# Altium integrated library Actel SX.IntLib: 224 symbols (part 6 of 17)
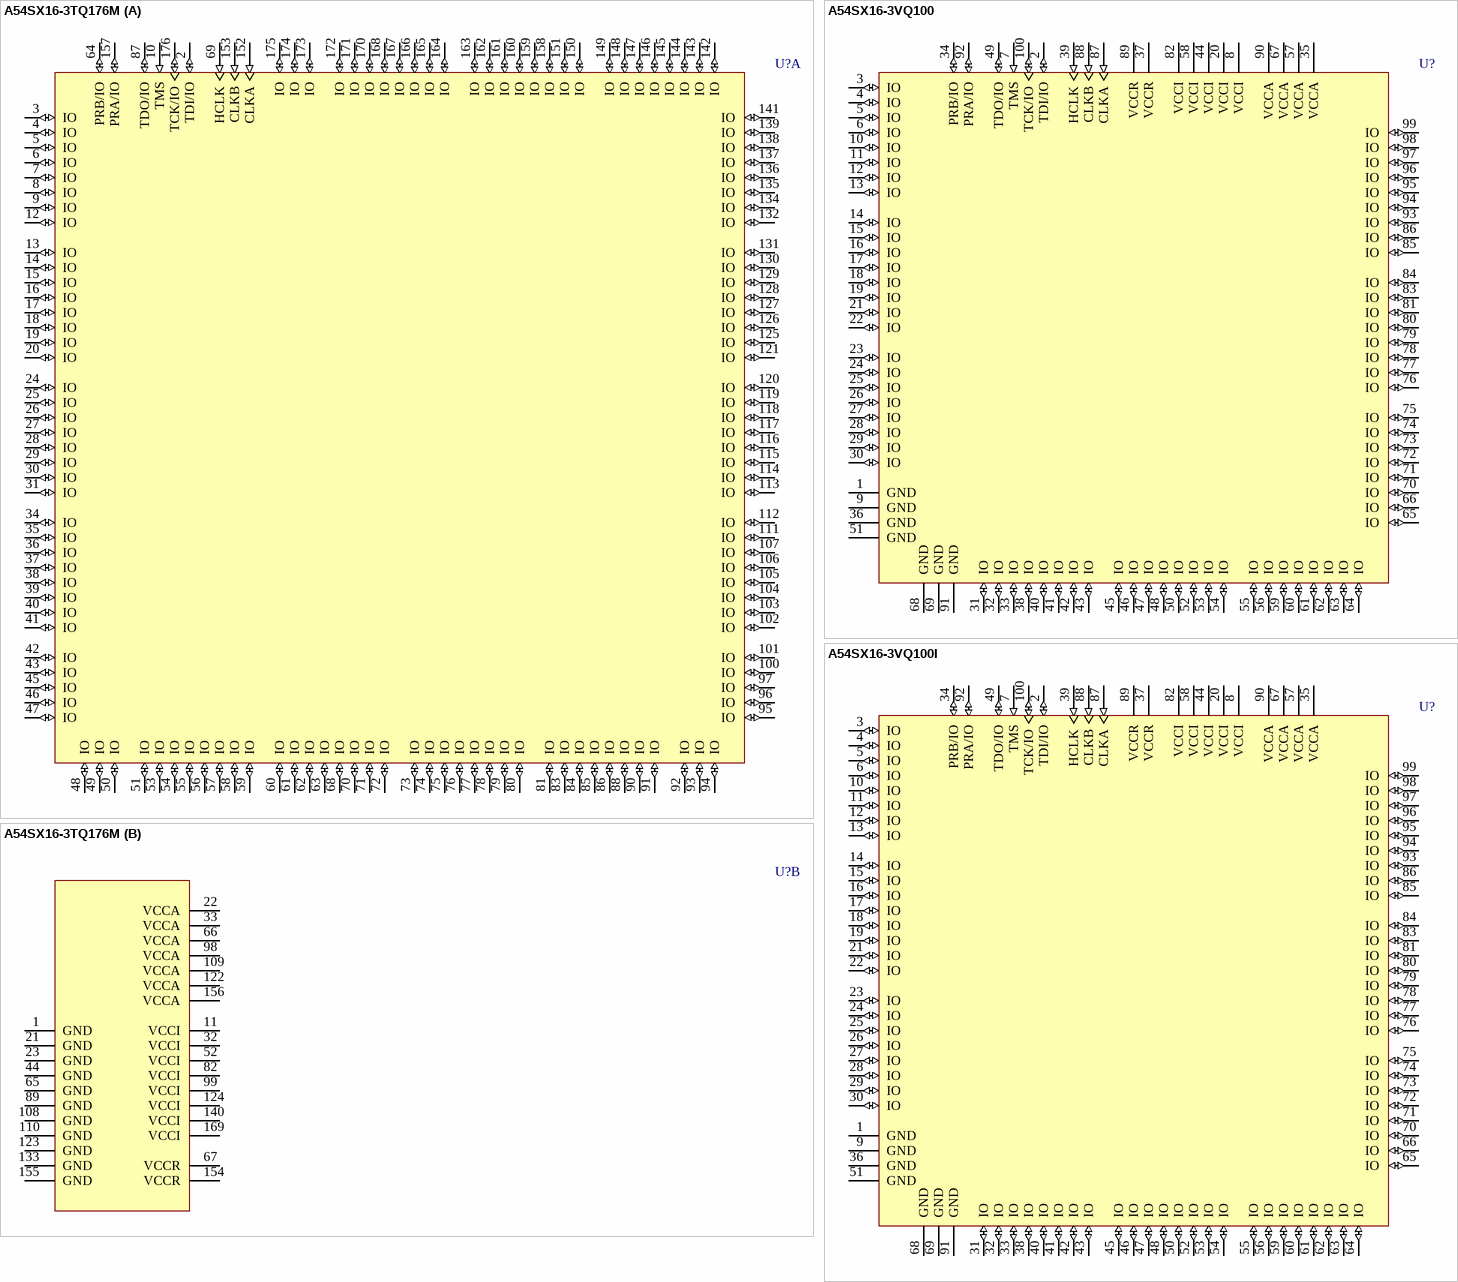
[diagram p172: symbols A54SX16-3TQ176M to A54SX16-3VQ100I]

## A54SX16-3TQ176M
designator U?
54SX16 FPGA, 147 User IOs, 176-Pin TQFP, Speed Grade 3, Commercial Grade; Note: Unused I/O Pins are automatically tristated by the Designer Series software.; Published: 21-May-2003; LatestRevisionDate: 13-Apr-2006; LatestRevisionNote: IPC-7351 Footprint Added.; DatasheetVersion: ver3.1, Jun-2003; PackageVersion: v9.2, Apr-2006; PackageReference: TQ176; Publisher: Altium Limited; PackageDescription: 176-Pin Plastic Quad Flat Pack (TQ176); Code_JEDEC: MS-026-BCA; ComponentLink1Description: Manufacturer Link; ComponentLink1URL: http://www.actel.com/products/sxa/index.html; ComponentLink2Description: Datasheet; ComponentLink2URL: http://www.actel.com/documents/A54SXDS.pdf
footprint TQ176_N (Thin QFP, 176-Leads, Body 24x24mm, Pitch 0.5mm, IPC Medium Density)
footprint TQ176_L (Thin QFP, 176-Leads, Body 24x24mm, Pitch 0.5mm, IPC High Density)
footprint TQ176_M (Thin QFP, 176-Leads, Body 24x24mm, Pitch 0.5mm, IPC Low Density)
3D model A54SX16-TQ176 (176-Pin Plastic Quad Flat Pack (TQ176))
part A pins: 2 TDI/IO (io), 3 IO (io), 4 IO (io), 5 IO (io), 6 IO (io), 7 IO (io), 8 IO (io), 9 IO (io), 10 TMS (in), 12 IO (io), 13 IO (io), 14 IO (io), 15 IO (io), 16 IO (io), 17 IO (io), 18 IO (io), 19 IO (io), 20 IO (io), 24 IO (io), 25 IO (io), 26 IO (io), 27 IO (io), 28 IO (io), 29 IO (io), 30 IO (io), 31 IO (io), 34 IO (io), 35 IO (io), 36 IO (io), 37 IO (io), 38 IO (io), 39 IO (io), 40 IO (io), 41 IO (io), 42 IO (io), 43 IO (io), 45 IO (io), 46 IO (io), 47 IO (io), 48 IO (io), 49 IO (io), 50 IO (io), 51 IO (io), 53 IO (io), 54 IO (io), 55 IO (io), 56 IO (io), 57 IO (io), 58 IO (io), 59 IO (io), 60 IO (io), 61 IO (io), 62 IO (io), 63 IO (io), 64 PRB/IO (io), 68 IO (io), 69 HCLK (in), 70 IO (io), 71 IO (io), 72 IO (io), 73 IO (io), 74 IO (io), 75 IO (io), 76 IO (io), 77 IO (io), 78 IO (io), 79 IO (io), 80 IO (io), 81 IO (io), 83 IO (io), 84 IO (io), 85 IO (io), 86 IO (io), 87 TDO/IO (io), 88 IO (io), 90 IO (io), 91 IO (io), 92 IO (io), 93 IO (io), 94 IO (io), 95 IO (io), 96 IO (io), 97 IO (io), 100 IO (io), 101 IO (io), 102 IO (io), 103 IO (io), 104 IO (io), 105 IO (io), 106 IO (io), 107 IO (io), 111 IO (io), 112 IO (io), 113 IO (io), 114 IO (io), 115 IO (io), 116 IO (io), 117 IO (io), 118 IO (io), 119 IO (io), 120 IO (io), 121 IO (io), 125 IO (io), 126 IO (io), 127 IO (io), 128 IO (io), 129 IO (io), 130 IO (io), 131 IO (io), 132 IO (io), 134 IO (io), 135 IO (io), 136 IO (io), 137 IO (io), 138 IO (io), 139 IO (io), 141 IO (io), 142 IO (io), 143 IO (io), 144 IO (io), 145 IO (io), 146 IO (io), 147 IO (io), 148 IO (io), 149 IO (io), 150 IO (io), 151 IO (io), 152 CLKA (in), 153 CLKB (in), 157 PRA/IO (io), 158 IO (io), 159 IO (io), 160 IO (io), 161 IO (io), 162 IO (io), 163 IO (io), 164 IO (io), 165 IO (io), 166 IO (io), 167 IO (io), 168 IO (io), 170 IO (io), 171 IO (io), 172 IO (io), 173 IO (io), 174 IO (io), 175 IO (io), 176 TCK/IO (io)
part B pins: 1 GND (power), 11 VCCI (power), 21 GND (power), 22 VCCA (power), 23 GND (power), 32 VCCI (power), 33 VCCA (power), 44 GND (power), 52 VCCI (power), 65 GND (power), 66 VCCA (power), 67 VCCR (power), 82 VCCI (power), 89 GND (power), 98 VCCA (power), 99 VCCI (power), 108 GND (power), 109 VCCA (power), 110 GND (power), 122 VCCA (power), 123 GND (power), 124 VCCI (power), 133 GND (power), 140 VCCI (power), 154 VCCR (power), 155 GND (power), 156 VCCA (power), 169 VCCI (power)

## A54SX16-3VQ100
designator U?
54SX16 FPGA, 81 User IOs, 100-Pin VQFP, Speed Grade 3, Commercial Grade; Note: Unused I/O Pins are automatically tristated by the Designer Series software.; Published: 21-May-2003; LatestRevisionDate: 13-Apr-2006; LatestRevisionNote: IPC-7351 Footprint Added.; DatasheetVersion: ver3.1, Jun-2003; PackageVersion: v9.2, Apr-2006; PackageReference: VQ100; Publisher: Altium Limited; PackageDescription: 100-Pin Plastic Quad Flat Pack (VQ100); Code_JEDEC: MS-036-AED; ComponentLink1Description: Manufacturer Link; ComponentLink1URL: http://www.actel.com/products/sxa/index.html; ComponentLink2Description: Datasheet; ComponentLink2URL: http://www.actel.com/documents/A54SXDS.pdf
footprint VQ100_N (Thin QFP, 100-Leads, Body 14x14mm, Pitch 0.5mm, IPC Medium Density)
footprint VQ100_L (Thin QFP, 100-Leads, Body 14x14mm, Pitch 0.5mm, IPC High Density)
footprint VQ100_M (Thin QFP, 100-Leads, Body 14x14mm, Pitch 0.5mm, IPC Low Density)
3D model A54SX16-VQ100 (100-Pin Plastic Quad Flat Pack (VQ100))
pins: 1 GND (power), 2 TDI/IO (io), 3 IO (io), 4 IO (io), 5 IO (io), 6 IO (io), 7 TMS (in), 8 VCCI (power), 9 GND (power), 10 IO (io), 11 IO (io), 12 IO (io), 13 IO (io), 14 IO (io), 15 IO (io), 16 IO (io), 17 IO (io), 18 IO (io), 19 IO (io), 20 VCCI (power), 21 IO (io), 22 IO (io), 23 IO (io), 24 IO (io), 25 IO (io), 26 IO (io), 27 IO (io), 28 IO (io), 29 IO (io), 30 IO (io), 31 IO (io), 32 IO (io), 33 IO (io), 34 PRB/IO (io), 35 VCCA (power), 36 GND (power), 37 VCCR (power), 38 IO (io), 39 HCLK (in), 40 IO (io), 41 IO (io), 42 IO (io), 43 IO (io), 44 VCCI (power), 45 IO (io), 46 IO (io), 47 IO (io), 48 IO (io), 49 TDO/IO (io), 50 IO (io), 51 GND (power), 52 IO (io), 53 IO (io), 54 IO (io), 55 IO (io), 56 IO (io), 57 VCCA (power), 58 VCCI (power), 59 IO (io), 60 IO (io), 61 IO (io), 62 IO (io), 63 IO (io), 64 IO (io), 65 IO (io), 66 IO (io), 67 VCCA (power), 68 GND (power), 69 GND (power), 70 IO (io), 71 IO (io), 72 IO (io), 73 IO (io), 74 IO (io), 75 IO (io), 76 IO (io), 77 IO (io), 78 IO (io), 79 IO (io), 80 IO (io), 81 IO (io), 82 VCCI (power), 83 IO (io), 84 IO (io), 85 IO (io), 86 IO (io), 87 CLKA (in), 88 CLKB (in), 89 VCCR (power), 90 VCCA (power), 91 GND (power), 92 PRA/IO (io), 93 IO (io), 94 IO (io), 95 IO (io), 96 IO (io), 97 IO (io), 98 IO (io), 99 IO (io), 100 TCK/IO (io)

## A54SX16-3VQ100I
designator U?
54SX16 FPGA, 81 User IOs, 100-Pin VQFP, Speed Grade 3, Industrial Grade; Note: Unused I/O Pins are automatically tristated by the Designer Series software.; Published: 21-May-2003; LatestRevisionDate: 13-Apr-2006; LatestRevisionNote: IPC-7351 Footprint Added.; DatasheetVersion: ver3.1, Jun-2003; PackageVersion: v9.2, Apr-2006; PackageReference: VQ100; Publisher: Altium Limited; PackageDescription: 100-Pin Plastic Quad Flat Pack (VQ100); Code_JEDEC: MS-036-AED; ComponentLink1Description: Manufacturer Link; ComponentLink1URL: http://www.actel.com/products/sxa/index.html; ComponentLink2Description: Datasheet; ComponentLink2URL: http://www.actel.com/documents/A54SXDS.pdf
footprint VQ100_N (Thin QFP, 100-Leads, Body 14x14mm, Pitch 0.5mm, IPC Medium Density)
footprint VQ100_L (Thin QFP, 100-Leads, Body 14x14mm, Pitch 0.5mm, IPC High Density)
footprint VQ100_M (Thin QFP, 100-Leads, Body 14x14mm, Pitch 0.5mm, IPC Low Density)
3D model A54SX16-VQ100 (100-Pin Plastic Quad Flat Pack (VQ100))
pins: 1 GND (power), 2 TDI/IO (io), 3 IO (io), 4 IO (io), 5 IO (io), 6 IO (io), 7 TMS (in), 8 VCCI (power), 9 GND (power), 10 IO (io), 11 IO (io), 12 IO (io), 13 IO (io), 14 IO (io), 15 IO (io), 16 IO (io), 17 IO (io), 18 IO (io), 19 IO (io), 20 VCCI (power), 21 IO (io), 22 IO (io), 23 IO (io), 24 IO (io), 25 IO (io), 26 IO (io), 27 IO (io), 28 IO (io), 29 IO (io), 30 IO (io), 31 IO (io), 32 IO (io), 33 IO (io), 34 PRB/IO (io), 35 VCCA (power), 36 GND (power), 37 VCCR (power), 38 IO (io), 39 HCLK (in), 40 IO (io), 41 IO (io), 42 IO (io), 43 IO (io), 44 VCCI (power), 45 IO (io), 46 IO (io), 47 IO (io), 48 IO (io), 49 TDO/IO (io), 50 IO (io), 51 GND (power), 52 IO (io), 53 IO (io), 54 IO (io), 55 IO (io), 56 IO (io), 57 VCCA (power), 58 VCCI (power), 59 IO (io), 60 IO (io), 61 IO (io), 62 IO (io), 63 IO (io), 64 IO (io), 65 IO (io), 66 IO (io), 67 VCCA (power), 68 GND (power), 69 GND (power), 70 IO (io), 71 IO (io), 72 IO (io), 73 IO (io), 74 IO (io), 75 IO (io), 76 IO (io), 77 IO (io), 78 IO (io), 79 IO (io), 80 IO (io), 81 IO (io), 82 VCCI (power), 83 IO (io), 84 IO (io), 85 IO (io), 86 IO (io), 87 CLKA (in), 88 CLKB (in), 89 VCCR (power), 90 VCCA (power), 91 GND (power), 92 PRA/IO (io), 93 IO (io), 94 IO (io), 95 IO (io), 96 IO (io), 97 IO (io), 98 IO (io), 99 IO (io), 100 TCK/IO (io)

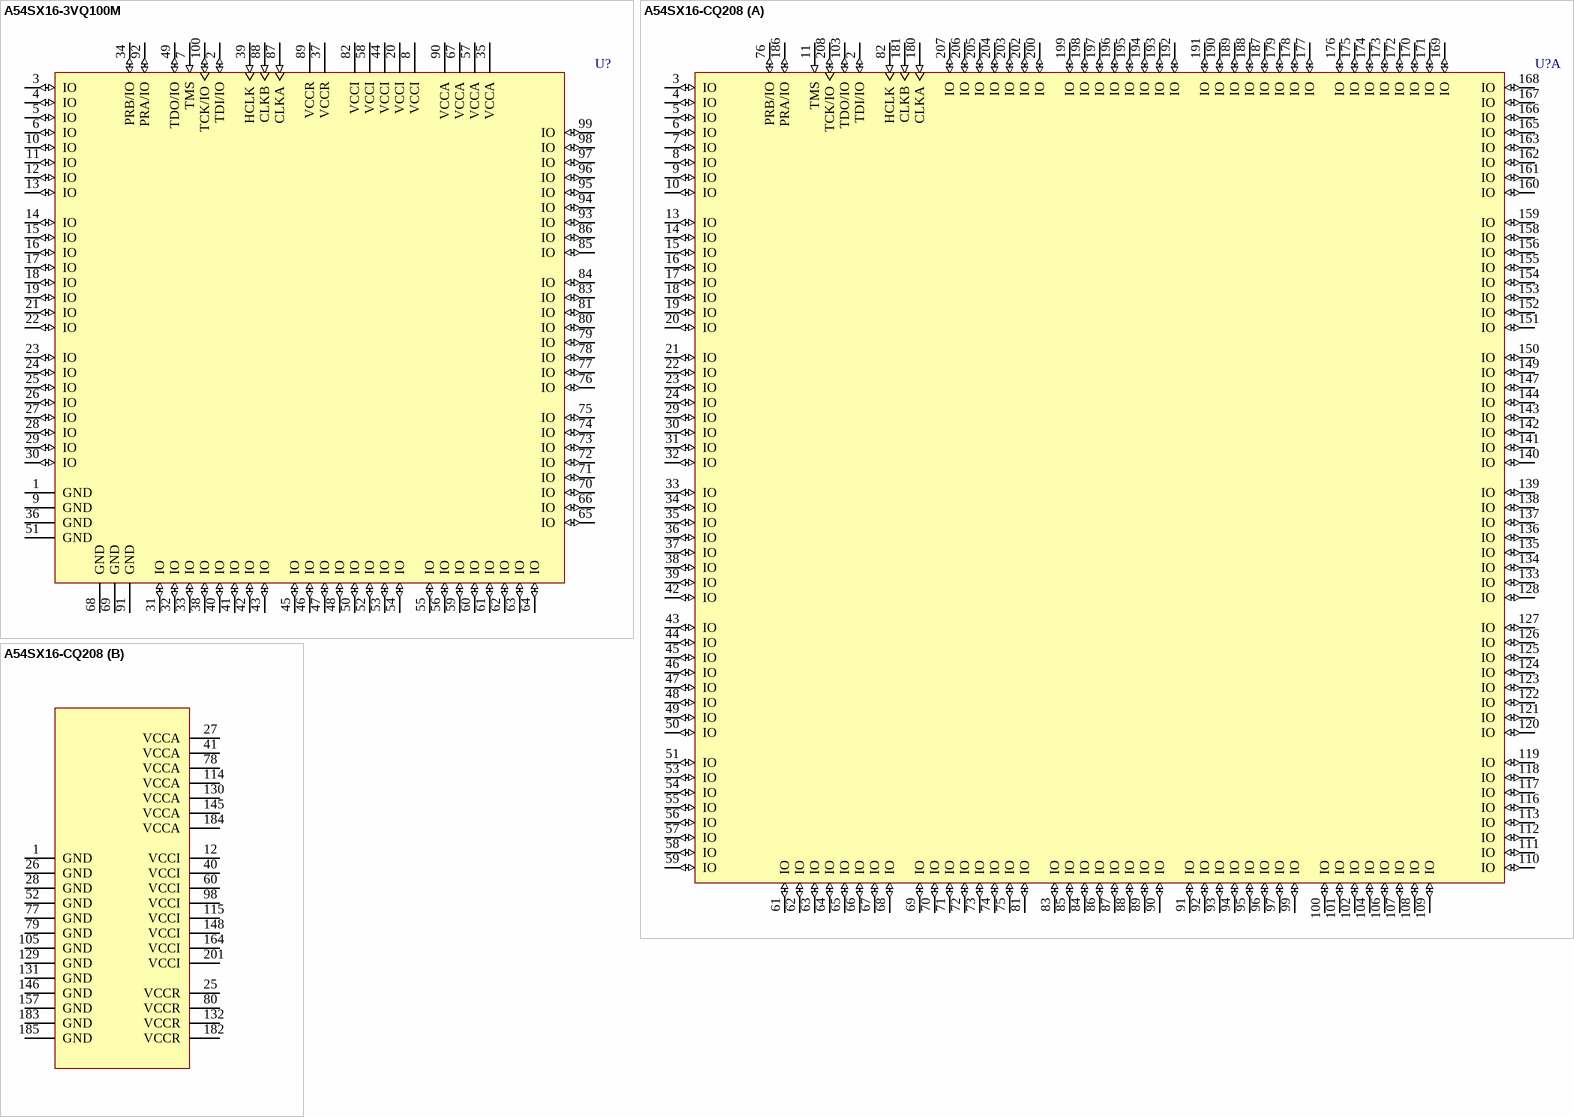
[diagram p44: symbols A54SX16-3VQ100M to A54SX16-CQ208]

## A54SX16-3VQ100M
designator U?
54SX16 FPGA, 81 User IOs, 100-Pin VQFP, Speed Grade 3, Commercial Grade; Note: Unused I/O Pins are automatically tristated by the Designer Series software.; Published: 21-May-2003; LatestRevisionDate: 13-Apr-2006; LatestRevisionNote: IPC-7351 Footprint Added.; DatasheetVersion: ver3.1, Jun-2003; PackageVersion: v9.2, Apr-2006; PackageReference: VQ100; Publisher: Altium Limited; PackageDescription: 100-Pin Plastic Quad Flat Pack (VQ100); Code_JEDEC: MS-036-AED; ComponentLink1Description: Manufacturer Link; ComponentLink1URL: http://www.actel.com/products/sxa/index.html; ComponentLink2Description: Datasheet; ComponentLink2URL: http://www.actel.com/documents/A54SXDS.pdf
footprint VQ100_N (Thin QFP, 100-Leads, Body 14x14mm, Pitch 0.5mm, IPC Medium Density)
footprint VQ100_L (Thin QFP, 100-Leads, Body 14x14mm, Pitch 0.5mm, IPC High Density)
footprint VQ100_M (Thin QFP, 100-Leads, Body 14x14mm, Pitch 0.5mm, IPC Low Density)
3D model A54SX16-VQ100 (100-Pin Plastic Quad Flat Pack (VQ100))
pins: 1 GND (power), 2 TDI/IO (io), 3 IO (io), 4 IO (io), 5 IO (io), 6 IO (io), 7 TMS (in), 8 VCCI (power), 9 GND (power), 10 IO (io), 11 IO (io), 12 IO (io), 13 IO (io), 14 IO (io), 15 IO (io), 16 IO (io), 17 IO (io), 18 IO (io), 19 IO (io), 20 VCCI (power), 21 IO (io), 22 IO (io), 23 IO (io), 24 IO (io), 25 IO (io), 26 IO (io), 27 IO (io), 28 IO (io), 29 IO (io), 30 IO (io), 31 IO (io), 32 IO (io), 33 IO (io), 34 PRB/IO (io), 35 VCCA (power), 36 GND (power), 37 VCCR (power), 38 IO (io), 39 HCLK (in), 40 IO (io), 41 IO (io), 42 IO (io), 43 IO (io), 44 VCCI (power), 45 IO (io), 46 IO (io), 47 IO (io), 48 IO (io), 49 TDO/IO (io), 50 IO (io), 51 GND (power), 52 IO (io), 53 IO (io), 54 IO (io), 55 IO (io), 56 IO (io), 57 VCCA (power), 58 VCCI (power), 59 IO (io), 60 IO (io), 61 IO (io), 62 IO (io), 63 IO (io), 64 IO (io), 65 IO (io), 66 IO (io), 67 VCCA (power), 68 GND (power), 69 GND (power), 70 IO (io), 71 IO (io), 72 IO (io), 73 IO (io), 74 IO (io), 75 IO (io), 76 IO (io), 77 IO (io), 78 IO (io), 79 IO (io), 80 IO (io), 81 IO (io), 82 VCCI (power), 83 IO (io), 84 IO (io), 85 IO (io), 86 IO (io), 87 CLKA (in), 88 CLKB (in), 89 VCCR (power), 90 VCCA (power), 91 GND (power), 92 PRA/IO (io), 93 IO (io), 94 IO (io), 95 IO (io), 96 IO (io), 97 IO (io), 98 IO (io), 99 IO (io), 100 TCK/IO (io)

## A54SX16-CQ208
designator U?
A54SX16 RadTolerant FPGA, 175 User IOs, 208-Pin CQFP, Standard Speed Grade, Commecial Grade; Published: 17-Sep-2003; LatestRevisionDate: 13-Apr-2006; LatestRevisionNote: IPC-7351 Footprint Added.; DatasheetVersion: ver2.1, Mar-2005; PackageVersion: v9.2, Apr-2006; PackageReference: CQ208; Publisher: Altium Limited; PackageDescription: 208-Pin Ceramic Quad Flat Pack (CQFP); ComponentLink1Description: Manufacturer Link; ComponentLink1URL: http://www.actel.com/products/aero/index.html; ComponentLink2Description: Datasheet; ComponentLink2URL: http://www.actel.com/documents/RTSXDS.pdf
footprint CQ208_N (CQFP, 208-Leads, Body 29x29mm; Pitch 0.5mm, Gullwing Leadform, IPC Medium Density)
footprint CQ208_L (CQFP, 208-Leads, Body 29x29mm; Pitch 0.5mm, Gullwing Leadform, IPC High Density)
footprint CQ208_M (CQFP, 208-Leads, Body 29x29mm; Pitch 0.5mm, Gullwing Leadform, IPC Low Density)
3D model A54SX16-CQ208 (208-Pin Ceramic Quad Flat Pack (CQFP))
part A pins: 2 TDI/IO (io), 3 IO (io), 4 IO (io), 5 IO (io), 6 IO (io), 7 IO (io), 8 IO (io), 9 IO (io), 10 IO (io), 11 TMS (in), 13 IO (io), 14 IO (io), 15 IO (io), 16 IO (io), 17 IO (io), 18 IO (io), 19 IO (io), 20 IO (io), 21 IO (io), 22 IO (io), 23 IO (io), 24 IO (io), 29 IO (io), 30 IO (io), 31 IO (io), 32 IO (io), 33 IO (io), 34 IO (io), 35 IO (io), 36 IO (io), 37 IO (io), 38 IO (io), 39 IO (io), 42 IO (io), 43 IO (io), 44 IO (io), 45 IO (io), 46 IO (io), 47 IO (io), 48 IO (io), 49 IO (io), 50 IO (io), 51 IO (io), 53 IO (io), 54 IO (io), 55 IO (io), 56 IO (io), 57 IO (io), 58 IO (io), 59 IO (io), 61 IO (io), 62 IO (io), 63 IO (io), 64 IO (io), 65 IO (io), 66 IO (io), 67 IO (io), 68 IO (io), 69 IO (io), 70 IO (io), 71 IO (io), 72 IO (io), 73 IO (io), 74 IO (io), 75 IO (io), 76 PRB/IO (io), 81 IO (io), 82 HCLK (in), 83 IO (io), 84 IO (io), 85 IO (io), 86 IO (io), 87 IO (io), 88 IO (io), 89 IO (io), 90 IO (io), 91 IO (io), 92 IO (io), 93 IO (io), 94 IO (io), 95 IO (io), 96 IO (io), 97 IO (io), 99 IO (io), 100 IO (io), 101 IO (io), 102 IO (io), 103 TDO/IO (io), 104 IO (io), 106 IO (io), 107 IO (io), 108 IO (io), 109 IO (io), 110 IO (io), 111 IO (io), 112 IO (io), 113 IO (io), 116 IO (io), 117 IO (io), 118 IO (io), 119 IO (io), 120 IO (io), 121 IO (io), 122 IO (io), 123 IO (io), 124 IO (io), 125 IO (io), 126 IO (io), 127 IO (io), 128 IO (io), 133 IO (io), 134 IO (io), 135 IO (io), 136 IO (io), 137 IO (io), 138 IO (io), 139 IO (io), 140 IO (io), 141 IO (io), 142 IO (io), 143 IO (io), 144 IO (io), 147 IO (io), 149 IO (io), 150 IO (io), 151 IO (io), 152 IO (io), 153 IO (io), 154 IO (io), 155 IO (io), 156 IO (io), 158 IO (io), 159 IO (io), 160 IO (io), 161 IO (io), 162 IO (io), 163 IO (io), 165 IO (io), 166 IO (io), 167 IO (io), 168 IO (io), 169 IO (io), 170 IO (io), 171 IO (io), 172 IO (io), 173 IO (io), 174 IO (io), 175 IO (io), 176 IO (io), 177 IO (io), 178 IO (io), 179 IO (io), 180 CLKA (in), 181 CLKB (in), 186 PRA/IO (io), 187 IO (io), 188 IO (io), 189 IO (io), 190 IO (io), 191 IO (io), 192 IO (io), 193 IO (io), 194 IO (io), 195 IO (io), 196 IO (io), 197 IO (io), 198 IO (io), 199 IO (io), 200 IO (io), 202 IO (io), 203 IO (io), 204 IO (io), 205 IO (io), 206 IO (io), 207 IO (io), 208 TCK/IO (io)
part B pins: 1 GND (power), 12 VCCI (power), 25 VCCR (power), 26 GND (power), 27 VCCA (power), 28 GND (power), 40 VCCI (power), 41 VCCA (power), 52 GND (power), 60 VCCI (power), 77 GND (power), 78 VCCA (power), 79 GND (power), 80 VCCR (power), 98 VCCI (power), 105 GND (power), 114 VCCA (power), 115 VCCI (power), 129 GND (power), 130 VCCA (power), 131 GND (power), 132 VCCR (power), 145 VCCA (power), 146 GND (power), 148 VCCI (power), 157 GND (power), 164 VCCI (power), 182 VCCR (power), 183 GND (power), 184 VCCA (power), 185 GND (power), 201 VCCI (power)

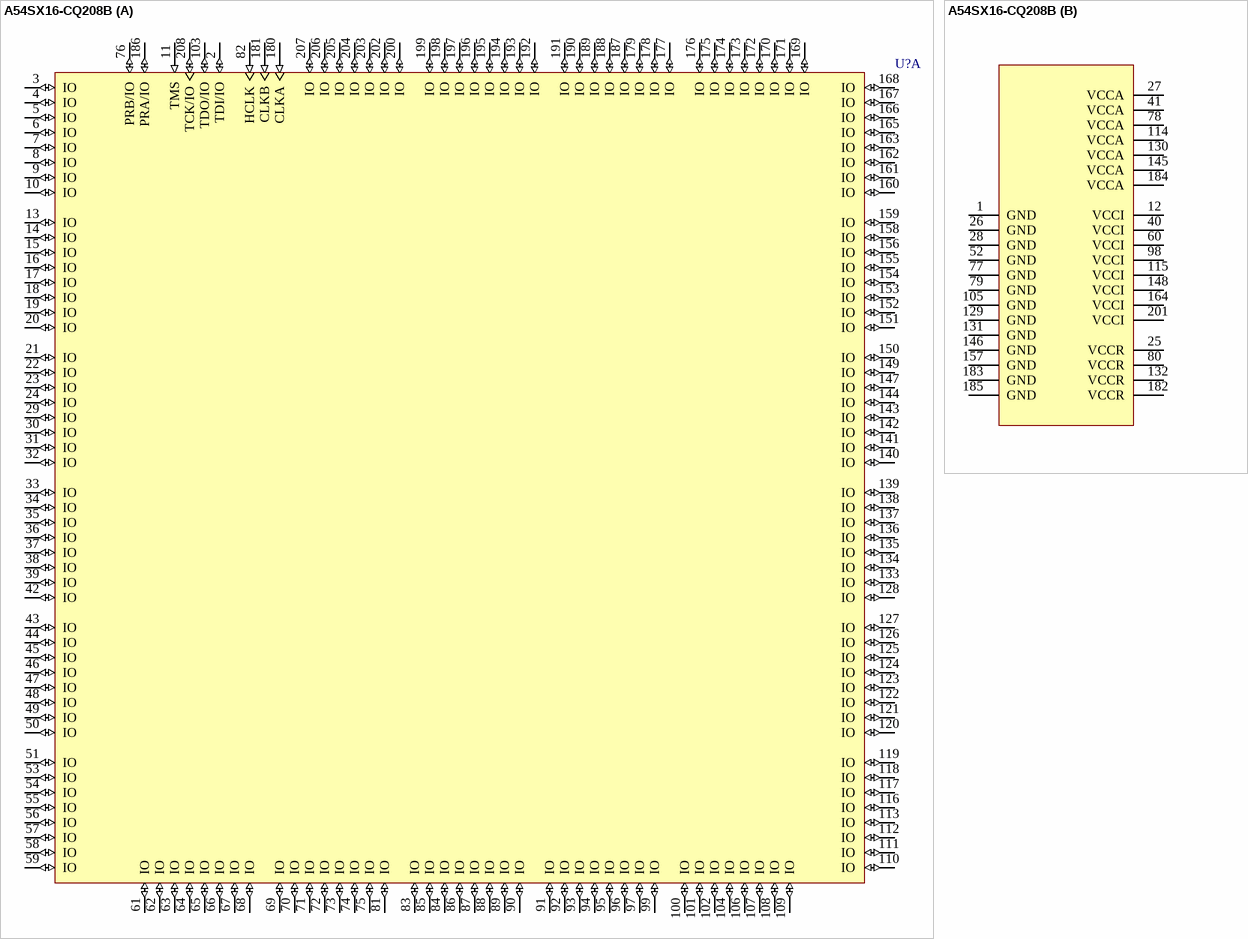
[diagram p45: symbol A54SX16-CQ208B]

## A54SX16-CQ208B
designator U?
A54SX16 RadTolerant FPGA, 175 User IOs, 208-Pin CQFP, Standard Speed Grade, MIL-STD-883; Published: 17-Sep-2003; LatestRevisionDate: 13-Apr-2006; LatestRevisionNote: IPC-7351 Footprint Added.; DatasheetVersion: ver2.1, Mar-2005; PackageVersion: v9.2, Apr-2006; PackageReference: CQ208; Publisher: Altium Limited; PackageDescription: 208-Pin Ceramic Quad Flat Pack (CQFP); ComponentLink1Description: Manufacturer Link; ComponentLink1URL: http://www.actel.com/products/aero/index.html; ComponentLink2Description: Datasheet; ComponentLink2URL: http://www.actel.com/documents/RTSXDS.pdf
footprint CQ208_N (CQFP, 208-Leads, Body 29x29mm; Pitch 0.5mm, Gullwing Leadform, IPC Medium Density)
footprint CQ208_L (CQFP, 208-Leads, Body 29x29mm; Pitch 0.5mm, Gullwing Leadform, IPC High Density)
footprint CQ208_M (CQFP, 208-Leads, Body 29x29mm; Pitch 0.5mm, Gullwing Leadform, IPC Low Density)
3D model A54SX16-CQ208 (208-Pin Ceramic Quad Flat Pack (CQFP))
part A pins: 2 TDI/IO (io), 3 IO (io), 4 IO (io), 5 IO (io), 6 IO (io), 7 IO (io), 8 IO (io), 9 IO (io), 10 IO (io), 11 TMS (in), 13 IO (io), 14 IO (io), 15 IO (io), 16 IO (io), 17 IO (io), 18 IO (io), 19 IO (io), 20 IO (io), 21 IO (io), 22 IO (io), 23 IO (io), 24 IO (io), 29 IO (io), 30 IO (io), 31 IO (io), 32 IO (io), 33 IO (io), 34 IO (io), 35 IO (io), 36 IO (io), 37 IO (io), 38 IO (io), 39 IO (io), 42 IO (io), 43 IO (io), 44 IO (io), 45 IO (io), 46 IO (io), 47 IO (io), 48 IO (io), 49 IO (io), 50 IO (io), 51 IO (io), 53 IO (io), 54 IO (io), 55 IO (io), 56 IO (io), 57 IO (io), 58 IO (io), 59 IO (io), 61 IO (io), 62 IO (io), 63 IO (io), 64 IO (io), 65 IO (io), 66 IO (io), 67 IO (io), 68 IO (io), 69 IO (io), 70 IO (io), 71 IO (io), 72 IO (io), 73 IO (io), 74 IO (io), 75 IO (io), 76 PRB/IO (io), 81 IO (io), 82 HCLK (in), 83 IO (io), 84 IO (io), 85 IO (io), 86 IO (io), 87 IO (io), 88 IO (io), 89 IO (io), 90 IO (io), 91 IO (io), 92 IO (io), 93 IO (io), 94 IO (io), 95 IO (io), 96 IO (io), 97 IO (io), 99 IO (io), 100 IO (io), 101 IO (io), 102 IO (io), 103 TDO/IO (io), 104 IO (io), 106 IO (io), 107 IO (io), 108 IO (io), 109 IO (io), 110 IO (io), 111 IO (io), 112 IO (io), 113 IO (io), 116 IO (io), 117 IO (io), 118 IO (io), 119 IO (io), 120 IO (io), 121 IO (io), 122 IO (io), 123 IO (io), 124 IO (io), 125 IO (io), 126 IO (io), 127 IO (io), 128 IO (io), 133 IO (io), 134 IO (io), 135 IO (io), 136 IO (io), 137 IO (io), 138 IO (io), 139 IO (io), 140 IO (io), 141 IO (io), 142 IO (io), 143 IO (io), 144 IO (io), 147 IO (io), 149 IO (io), 150 IO (io), 151 IO (io), 152 IO (io), 153 IO (io), 154 IO (io), 155 IO (io), 156 IO (io), 158 IO (io), 159 IO (io), 160 IO (io), 161 IO (io), 162 IO (io), 163 IO (io), 165 IO (io), 166 IO (io), 167 IO (io), 168 IO (io), 169 IO (io), 170 IO (io), 171 IO (io), 172 IO (io), 173 IO (io), 174 IO (io), 175 IO (io), 176 IO (io), 177 IO (io), 178 IO (io), 179 IO (io), 180 CLKA (in), 181 CLKB (in), 186 PRA/IO (io), 187 IO (io), 188 IO (io), 189 IO (io), 190 IO (io), 191 IO (io), 192 IO (io), 193 IO (io), 194 IO (io), 195 IO (io), 196 IO (io), 197 IO (io), 198 IO (io), 199 IO (io), 200 IO (io), 202 IO (io), 203 IO (io), 204 IO (io), 205 IO (io), 206 IO (io), 207 IO (io), 208 TCK/IO (io)
part B pins: 1 GND (power), 12 VCCI (power), 25 VCCR (power), 26 GND (power), 27 VCCA (power), 28 GND (power), 40 VCCI (power), 41 VCCA (power), 52 GND (power), 60 VCCI (power), 77 GND (power), 78 VCCA (power), 79 GND (power), 80 VCCR (power), 98 VCCI (power), 105 GND (power), 114 VCCA (power), 115 VCCI (power), 129 GND (power), 130 VCCA (power), 131 GND (power), 132 VCCR (power), 145 VCCA (power), 146 GND (power), 148 VCCI (power), 157 GND (power), 164 VCCI (power), 182 VCCR (power), 183 GND (power), 184 VCCA (power), 185 GND (power), 201 VCCI (power)

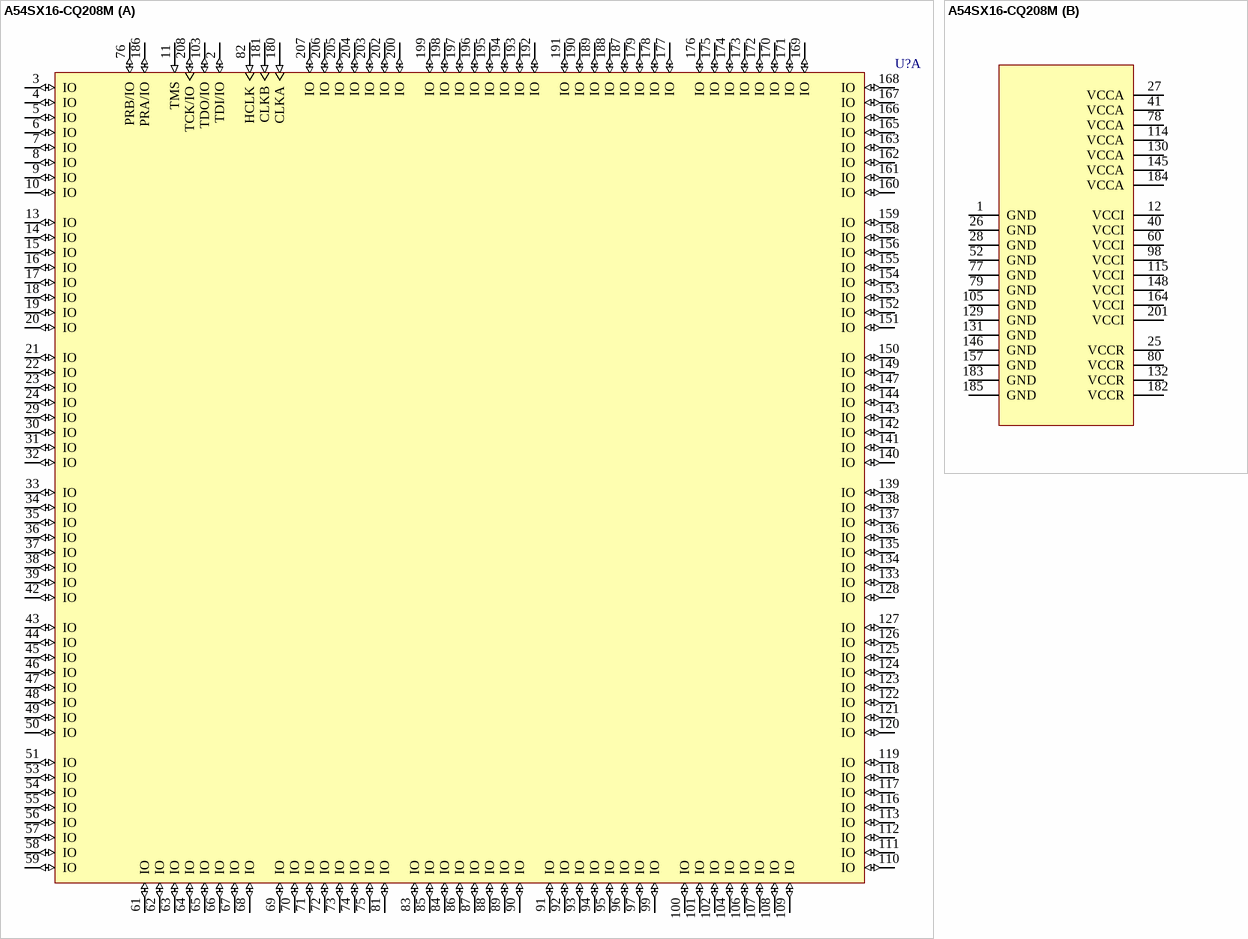
[diagram p46: symbol A54SX16-CQ208M]

## A54SX16-CQ208M
designator U?
A54SX16 RadTolerant FPGA, 175 User IOs, 208-Pin CQFP, Standard Speed Grade, Military Grade; Published: 17-Sep-2003; LatestRevisionDate: 13-Apr-2006; LatestRevisionNote: IPC-7351 Footprint Added.; DatasheetVersion: ver2.1, Mar-2005; PackageVersion: v9.2, Apr-2006; PackageReference: CQ208; Publisher: Altium Limited; PackageDescription: 208-Pin Ceramic Quad Flat Pack (CQFP); ComponentLink1Description: Manufacturer Link; ComponentLink1URL: http://www.actel.com/products/aero/index.html; ComponentLink2Description: Datasheet; ComponentLink2URL: http://www.actel.com/documents/RTSXDS.pdf
footprint CQ208_N (CQFP, 208-Leads, Body 29x29mm; Pitch 0.5mm, Gullwing Leadform, IPC Medium Density)
footprint CQ208_L (CQFP, 208-Leads, Body 29x29mm; Pitch 0.5mm, Gullwing Leadform, IPC High Density)
footprint CQ208_M (CQFP, 208-Leads, Body 29x29mm; Pitch 0.5mm, Gullwing Leadform, IPC Low Density)
3D model A54SX16-CQ208 (208-Pin Ceramic Quad Flat Pack (CQFP))
part A pins: 2 TDI/IO (io), 3 IO (io), 4 IO (io), 5 IO (io), 6 IO (io), 7 IO (io), 8 IO (io), 9 IO (io), 10 IO (io), 11 TMS (in), 13 IO (io), 14 IO (io), 15 IO (io), 16 IO (io), 17 IO (io), 18 IO (io), 19 IO (io), 20 IO (io), 21 IO (io), 22 IO (io), 23 IO (io), 24 IO (io), 29 IO (io), 30 IO (io), 31 IO (io), 32 IO (io), 33 IO (io), 34 IO (io), 35 IO (io), 36 IO (io), 37 IO (io), 38 IO (io), 39 IO (io), 42 IO (io), 43 IO (io), 44 IO (io), 45 IO (io), 46 IO (io), 47 IO (io), 48 IO (io), 49 IO (io), 50 IO (io), 51 IO (io), 53 IO (io), 54 IO (io), 55 IO (io), 56 IO (io), 57 IO (io), 58 IO (io), 59 IO (io), 61 IO (io), 62 IO (io), 63 IO (io), 64 IO (io), 65 IO (io), 66 IO (io), 67 IO (io), 68 IO (io), 69 IO (io), 70 IO (io), 71 IO (io), 72 IO (io), 73 IO (io), 74 IO (io), 75 IO (io), 76 PRB/IO (io), 81 IO (io), 82 HCLK (in), 83 IO (io), 84 IO (io), 85 IO (io), 86 IO (io), 87 IO (io), 88 IO (io), 89 IO (io), 90 IO (io), 91 IO (io), 92 IO (io), 93 IO (io), 94 IO (io), 95 IO (io), 96 IO (io), 97 IO (io), 99 IO (io), 100 IO (io), 101 IO (io), 102 IO (io), 103 TDO/IO (io), 104 IO (io), 106 IO (io), 107 IO (io), 108 IO (io), 109 IO (io), 110 IO (io), 111 IO (io), 112 IO (io), 113 IO (io), 116 IO (io), 117 IO (io), 118 IO (io), 119 IO (io), 120 IO (io), 121 IO (io), 122 IO (io), 123 IO (io), 124 IO (io), 125 IO (io), 126 IO (io), 127 IO (io), 128 IO (io), 133 IO (io), 134 IO (io), 135 IO (io), 136 IO (io), 137 IO (io), 138 IO (io), 139 IO (io), 140 IO (io), 141 IO (io), 142 IO (io), 143 IO (io), 144 IO (io), 147 IO (io), 149 IO (io), 150 IO (io), 151 IO (io), 152 IO (io), 153 IO (io), 154 IO (io), 155 IO (io), 156 IO (io), 158 IO (io), 159 IO (io), 160 IO (io), 161 IO (io), 162 IO (io), 163 IO (io), 165 IO (io), 166 IO (io), 167 IO (io), 168 IO (io), 169 IO (io), 170 IO (io), 171 IO (io), 172 IO (io), 173 IO (io), 174 IO (io), 175 IO (io), 176 IO (io), 177 IO (io), 178 IO (io), 179 IO (io), 180 CLKA (in), 181 CLKB (in), 186 PRA/IO (io), 187 IO (io), 188 IO (io), 189 IO (io), 190 IO (io), 191 IO (io), 192 IO (io), 193 IO (io), 194 IO (io), 195 IO (io), 196 IO (io), 197 IO (io), 198 IO (io), 199 IO (io), 200 IO (io), 202 IO (io), 203 IO (io), 204 IO (io), 205 IO (io), 206 IO (io), 207 IO (io), 208 TCK/IO (io)
part B pins: 1 GND (power), 12 VCCI (power), 25 VCCR (power), 26 GND (power), 27 VCCA (power), 28 GND (power), 40 VCCI (power), 41 VCCA (power), 52 GND (power), 60 VCCI (power), 77 GND (power), 78 VCCA (power), 79 GND (power), 80 VCCR (power), 98 VCCI (power), 105 GND (power), 114 VCCA (power), 115 VCCI (power), 129 GND (power), 130 VCCA (power), 131 GND (power), 132 VCCR (power), 145 VCCA (power), 146 GND (power), 148 VCCI (power), 157 GND (power), 164 VCCI (power), 182 VCCR (power), 183 GND (power), 184 VCCA (power), 185 GND (power), 201 VCCI (power)

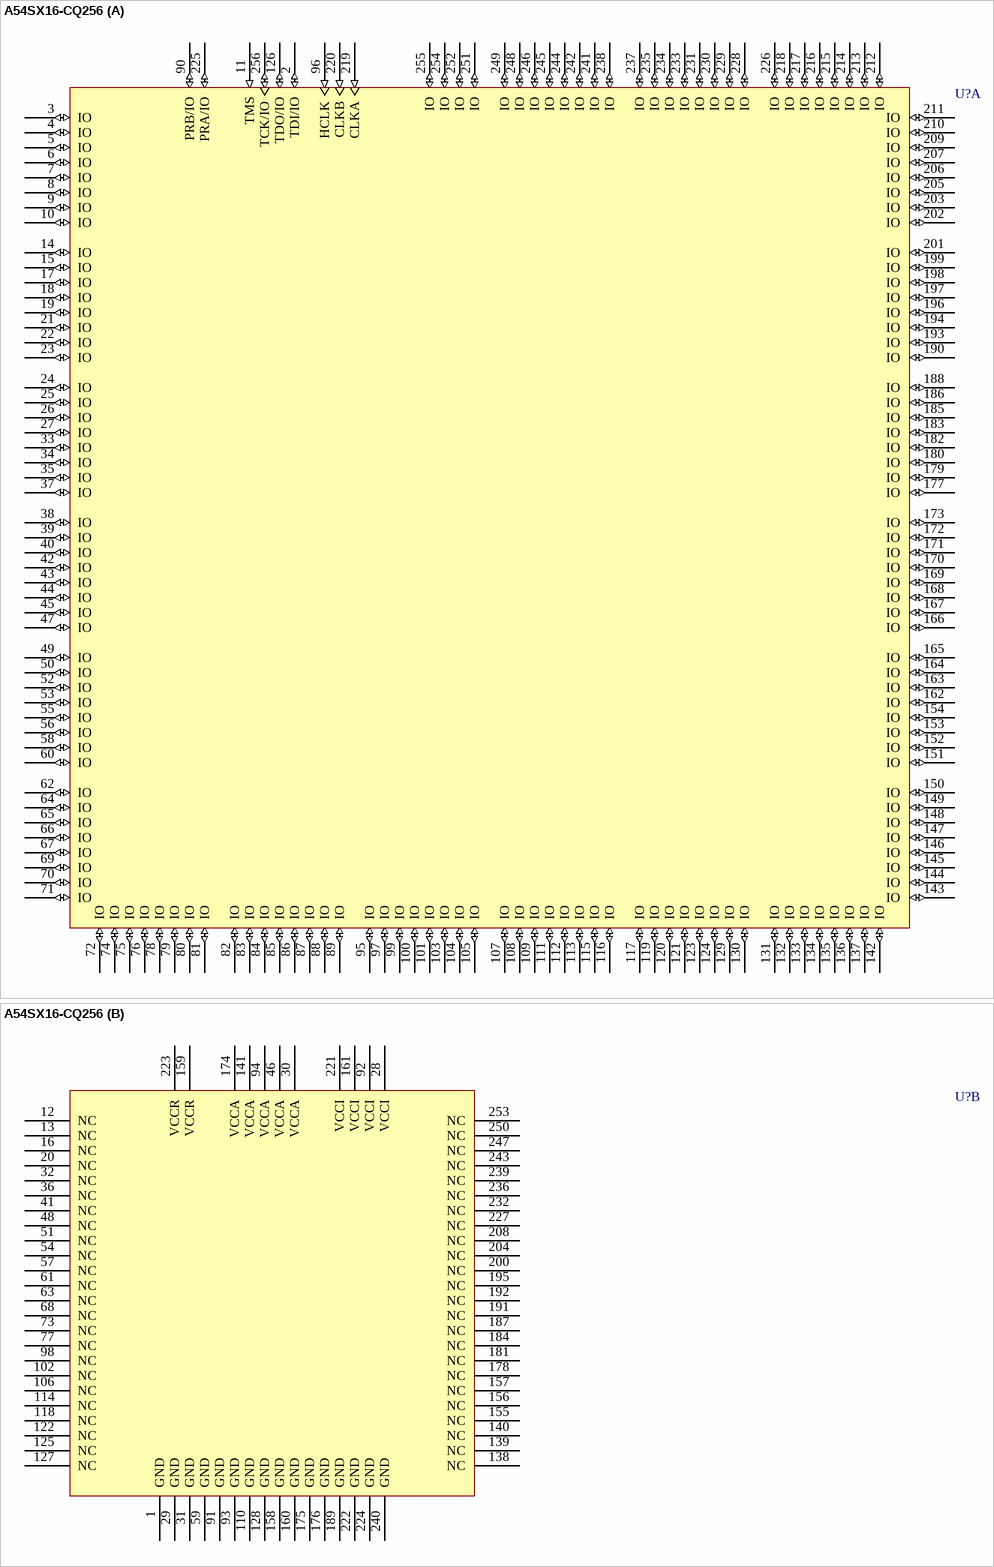
[diagram p47: symbol A54SX16-CQ256]

## A54SX16-CQ256
designator U?
A54SX16 RadTolerant FPGA, 180 User IOs, 256-Pin CQFP, Standard Speed Grade, Commecial Grade; Published: 17-Sep-2003; LatestRevisionDate: 13-Apr-2006; LatestRevisionNote: IPC-7351 Footprint Added.; DatasheetVersion: ver2.1, Mar-2005; PackageVersion: v9.2, Apr-2006; PackageReference: CQ256; Publisher: Altium Limited; PackageDescription: 256-Pin Ceramic Quad Flat Pack (CQFP); Code_JEDEC: MO-134-AB; ComponentLink1Description: Manufacturer Link; ComponentLink1URL: http://www.actel.com/products/aero/index.html; ComponentLink2Description: Datasheet; ComponentLink2URL: http://www.actel.com/documents/RTSXDS.pdf
footprint CQ256_N (CQFP, 256-Leads, Body 36x36mm; Pitch 0.5mm, Gullwing Leadform, IPC Medium Density)
footprint CQ256_L (CQFP, 256-Leads, Body 36x36mm; Pitch 0.5mm, Gullwing Leadform, IPC High Density)
footprint CQ256_M (CQFP, 256-Leads, Body 36x36mm; Pitch 0.5mm, Gullwing Leadform, IPC Low Density)
3D model A54SX16-CQ256 (256-Pin Ceramic Quad Flat Pack (CQFP))
part A pins: 2 TDI/IO (io), 3 IO (io), 4 IO (io), 5 IO (io), 6 IO (io), 7 IO (io), 8 IO (io), 9 IO (io), 10 IO (io), 11 TMS (in), 14 IO (io), 15 IO (io), 17 IO (io), 18 IO (io), 19 IO (io), 21 IO (io), 22 IO (io), 23 IO (io), 24 IO (io), 25 IO (io), 26 IO (io), 27 IO (io), 33 IO (io), 34 IO (io), 35 IO (io), 37 IO (io), 38 IO (io), 39 IO (io), 40 IO (io), 42 IO (io), 43 IO (io), 44 IO (io), 45 IO (io), 47 IO (io), 49 IO (io), 50 IO (io), 52 IO (io), 53 IO (io), 55 IO (io), 56 IO (io), 58 IO (io), 60 IO (io), 62 IO (io), 64 IO (io), 65 IO (io), 66 IO (io), 67 IO (io), 69 IO (io), 70 IO (io), 71 IO (io), 72 IO (io), 74 IO (io), 75 IO (io), 76 IO (io), 78 IO (io), 79 IO (io), 80 IO (io), 81 IO (io), 82 IO (io), 83 IO (io), 84 IO (io), 85 IO (io), 86 IO (io), 87 IO (io), 88 IO (io), 89 IO (io), 90 PRB/IO (io), 95 IO (io), 96 HCLK (in), 97 IO (io), 99 IO (io), 100 IO (io), 101 IO (io), 103 IO (io), 104 IO (io), 105 IO (io), 107 IO (io), 108 IO (io), 109 IO (io), 111 IO (io), 112 IO (io), 113 IO (io), 115 IO (io), 116 IO (io), 117 IO (io), 119 IO (io), 120 IO (io), 121 IO (io), 123 IO (io), 124 IO (io), 126 TDO/IO (io), 129 IO (io), 130 IO (io), 131 IO (io), 132 IO (io), 133 IO (io), 134 IO (io), 135 IO (io), 136 IO (io), 137 IO (io), 142 IO (io), 143 IO (io), 144 IO (io), 145 IO (io), 146 IO (io), 147 IO (io), 148 IO (io), 149 IO (io), 150 IO (io), 151 IO (io), 152 IO (io), 153 IO (io), 154 IO (io), 162 IO (io), 163 IO (io), 164 IO (io), 165 IO (io), 166 IO (io), 167 IO (io), 168 IO (io), 169 IO (io), 170 IO (io), 171 IO (io), 172 IO (io), 173 IO (io), 177 IO (io), 179 IO (io), 180 IO (io), 182 IO (io), 183 IO (io), 185 IO (io), 186 IO (io), 188 IO (io), 190 IO (io), 193 IO (io), 194 IO (io), 196 IO (io), 197 IO (io), 198 IO (io), 199 IO (io), 201 IO (io), 202 IO (io), 203 IO (io), 205 IO (io), 206 IO (io), 207 IO (io), 209 IO (io), 210 IO (io), 211 IO (io), 212 IO (io), 213 IO (io), 214 IO (io), 215 IO (io), 216 IO (io), 217 IO (io), 218 IO (io), 219 CLKA (in), 220 CLKB (in), 225 PRA/IO (io), 226 IO (io), 228 IO (io), 229 IO (io), 230 IO (io), 231 IO (io), 233 IO (io), 234 IO (io), 235 IO (io), 237 IO (io), 238 IO (io), 241 IO (io), 242 IO (io), 244 IO (io), 245 IO (io), 246 IO (io), 248 IO (io), 249 IO (io), 251 IO (io), 252 IO (io), 254 IO (io), 255 IO (io), 256 TCK/IO (io)
part B pins: 1 GND (power), 12 NC, 13 NC, 16 NC, 20 NC, 28 VCCI (power), 29 GND (power), 30 VCCA (power), 31 GND (power), 32 NC, 36 NC, 41 NC, 46 VCCA (power), 48 NC, 51 NC, 54 NC, 57 NC, 59 GND (power), 61 NC, 63 NC, 68 NC, 73 NC, 77 NC, 91 GND (power), 92 VCCI (power), 93 GND (power), 94 VCCA (power), 98 NC, 102 NC, 106 NC, 110 GND (power), 114 NC, 118 NC, 122 NC, 125 NC, 127 NC, 128 GND (power), 138 NC, 139 NC, 140 NC, 141 VCCA (power), 155 NC, 156 NC, 157 NC, 158 GND (power), 159 VCCR (power), 160 GND (power), 161 VCCI (power), 174 VCCA (power), 175 GND (power), 176 GND (power), 178 NC, 181 NC, 184 NC, 187 NC, 189 GND (power), 191 NC, 192 NC, 195 NC, 200 NC, 204 NC, 208 NC, 221 VCCI (power), 222 GND (power), 223 VCCR (power), 224 GND (power), 227 NC, 232 NC, 236 NC, 239 NC, 240 GND (power), 243 NC, 247 NC, 250 NC, 253 NC

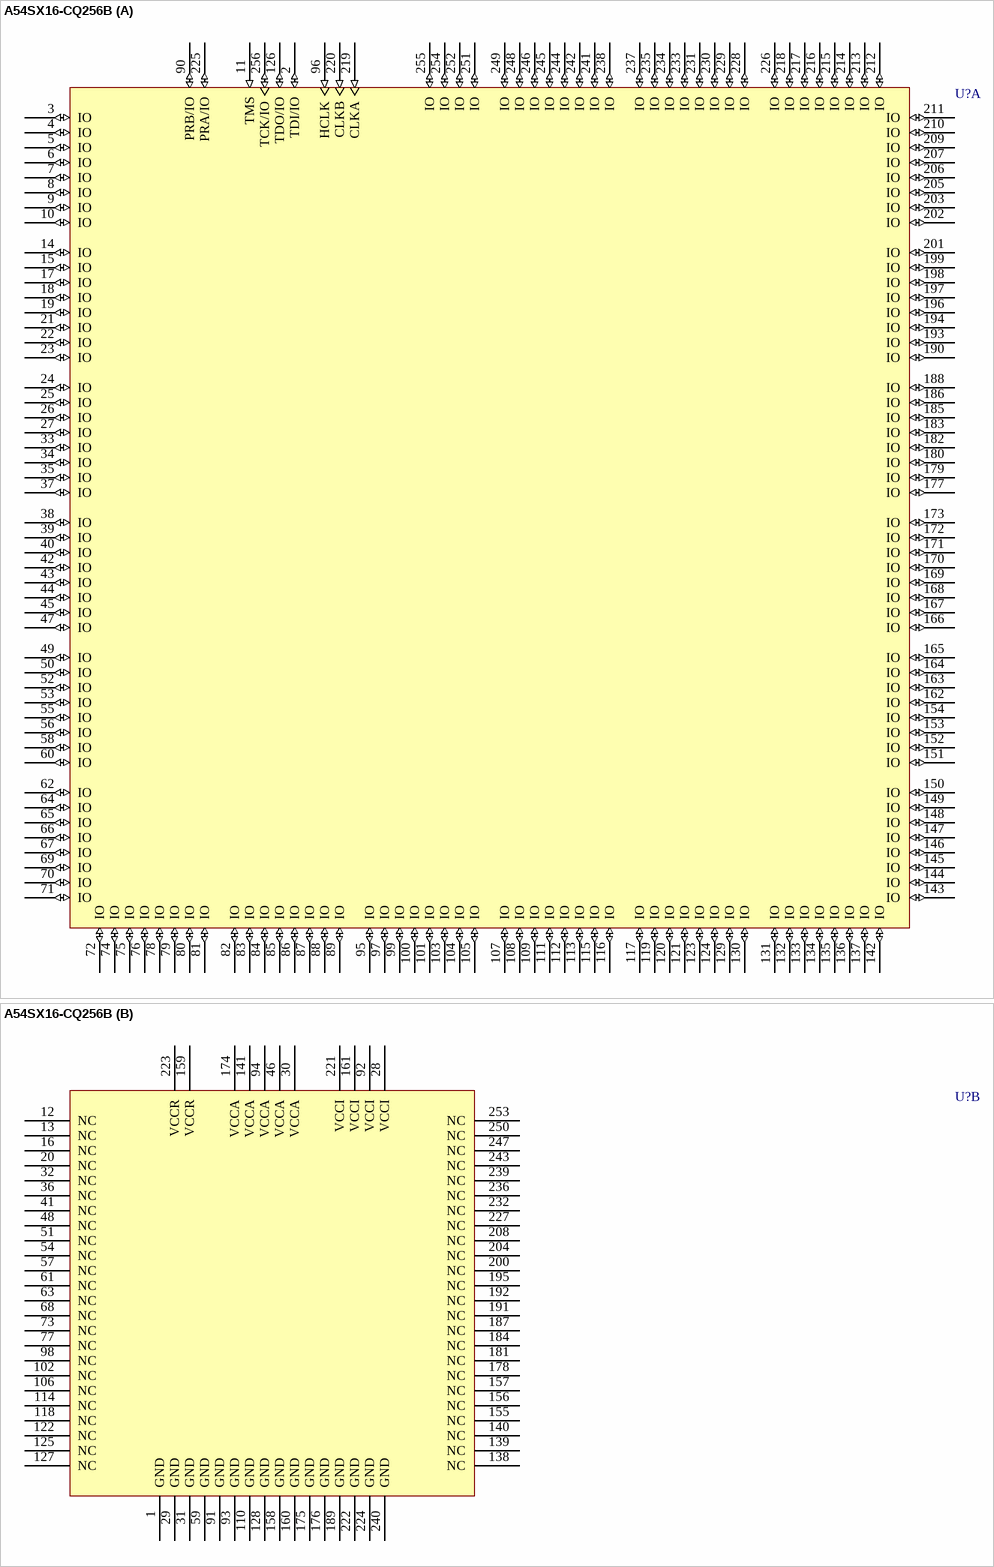
[diagram p48: symbol A54SX16-CQ256B]

## A54SX16-CQ256B
designator U?
A54SX16 RadTolerant FPGA, 180 User IOs, 256-Pin CQFP, Standard Speed Grade, MIL-STD-883; Published: 17-Sep-2003; LatestRevisionDate: 13-Apr-2006; LatestRevisionNote: IPC-7351 Footprint Added.; DatasheetVersion: ver2.1, Mar-2005; PackageVersion: v9.2, Apr-2006; PackageReference: CQ256; Publisher: Altium Limited; PackageDescription: 256-Pin Ceramic Quad Flat Pack (CQFP); Code_JEDEC: MO-134-AB; ComponentLink1Description: Manufacturer Link; ComponentLink1URL: http://www.actel.com/products/aero/index.html; ComponentLink2Description: Datasheet; ComponentLink2URL: http://www.actel.com/documents/RTSXDS.pdf
footprint CQ256_N (CQFP, 256-Leads, Body 36x36mm; Pitch 0.5mm, Gullwing Leadform, IPC Medium Density)
footprint CQ256_L (CQFP, 256-Leads, Body 36x36mm; Pitch 0.5mm, Gullwing Leadform, IPC High Density)
footprint CQ256_M (CQFP, 256-Leads, Body 36x36mm; Pitch 0.5mm, Gullwing Leadform, IPC Low Density)
3D model A54SX16-CQ256 (256-Pin Ceramic Quad Flat Pack (CQFP))
part A pins: 2 TDI/IO (io), 3 IO (io), 4 IO (io), 5 IO (io), 6 IO (io), 7 IO (io), 8 IO (io), 9 IO (io), 10 IO (io), 11 TMS (in), 14 IO (io), 15 IO (io), 17 IO (io), 18 IO (io), 19 IO (io), 21 IO (io), 22 IO (io), 23 IO (io), 24 IO (io), 25 IO (io), 26 IO (io), 27 IO (io), 33 IO (io), 34 IO (io), 35 IO (io), 37 IO (io), 38 IO (io), 39 IO (io), 40 IO (io), 42 IO (io), 43 IO (io), 44 IO (io), 45 IO (io), 47 IO (io), 49 IO (io), 50 IO (io), 52 IO (io), 53 IO (io), 55 IO (io), 56 IO (io), 58 IO (io), 60 IO (io), 62 IO (io), 64 IO (io), 65 IO (io), 66 IO (io), 67 IO (io), 69 IO (io), 70 IO (io), 71 IO (io), 72 IO (io), 74 IO (io), 75 IO (io), 76 IO (io), 78 IO (io), 79 IO (io), 80 IO (io), 81 IO (io), 82 IO (io), 83 IO (io), 84 IO (io), 85 IO (io), 86 IO (io), 87 IO (io), 88 IO (io), 89 IO (io), 90 PRB/IO (io), 95 IO (io), 96 HCLK (in), 97 IO (io), 99 IO (io), 100 IO (io), 101 IO (io), 103 IO (io), 104 IO (io), 105 IO (io), 107 IO (io), 108 IO (io), 109 IO (io), 111 IO (io), 112 IO (io), 113 IO (io), 115 IO (io), 116 IO (io), 117 IO (io), 119 IO (io), 120 IO (io), 121 IO (io), 123 IO (io), 124 IO (io), 126 TDO/IO (io), 129 IO (io), 130 IO (io), 131 IO (io), 132 IO (io), 133 IO (io), 134 IO (io), 135 IO (io), 136 IO (io), 137 IO (io), 142 IO (io), 143 IO (io), 144 IO (io), 145 IO (io), 146 IO (io), 147 IO (io), 148 IO (io), 149 IO (io), 150 IO (io), 151 IO (io), 152 IO (io), 153 IO (io), 154 IO (io), 162 IO (io), 163 IO (io), 164 IO (io), 165 IO (io), 166 IO (io), 167 IO (io), 168 IO (io), 169 IO (io), 170 IO (io), 171 IO (io), 172 IO (io), 173 IO (io), 177 IO (io), 179 IO (io), 180 IO (io), 182 IO (io), 183 IO (io), 185 IO (io), 186 IO (io), 188 IO (io), 190 IO (io), 193 IO (io), 194 IO (io), 196 IO (io), 197 IO (io), 198 IO (io), 199 IO (io), 201 IO (io), 202 IO (io), 203 IO (io), 205 IO (io), 206 IO (io), 207 IO (io), 209 IO (io), 210 IO (io), 211 IO (io), 212 IO (io), 213 IO (io), 214 IO (io), 215 IO (io), 216 IO (io), 217 IO (io), 218 IO (io), 219 CLKA (in), 220 CLKB (in), 225 PRA/IO (io), 226 IO (io), 228 IO (io), 229 IO (io), 230 IO (io), 231 IO (io), 233 IO (io), 234 IO (io), 235 IO (io), 237 IO (io), 238 IO (io), 241 IO (io), 242 IO (io), 244 IO (io), 245 IO (io), 246 IO (io), 248 IO (io), 249 IO (io), 251 IO (io), 252 IO (io), 254 IO (io), 255 IO (io), 256 TCK/IO (io)
part B pins: 1 GND (power), 12 NC, 13 NC, 16 NC, 20 NC, 28 VCCI (power), 29 GND (power), 30 VCCA (power), 31 GND (power), 32 NC, 36 NC, 41 NC, 46 VCCA (power), 48 NC, 51 NC, 54 NC, 57 NC, 59 GND (power), 61 NC, 63 NC, 68 NC, 73 NC, 77 NC, 91 GND (power), 92 VCCI (power), 93 GND (power), 94 VCCA (power), 98 NC, 102 NC, 106 NC, 110 GND (power), 114 NC, 118 NC, 122 NC, 125 NC, 127 NC, 128 GND (power), 138 NC, 139 NC, 140 NC, 141 VCCA (power), 155 NC, 156 NC, 157 NC, 158 GND (power), 159 VCCR (power), 160 GND (power), 161 VCCI (power), 174 VCCA (power), 175 GND (power), 176 GND (power), 178 NC, 181 NC, 184 NC, 187 NC, 189 GND (power), 191 NC, 192 NC, 195 NC, 200 NC, 204 NC, 208 NC, 221 VCCI (power), 222 GND (power), 223 VCCR (power), 224 GND (power), 227 NC, 232 NC, 236 NC, 239 NC, 240 GND (power), 243 NC, 247 NC, 250 NC, 253 NC

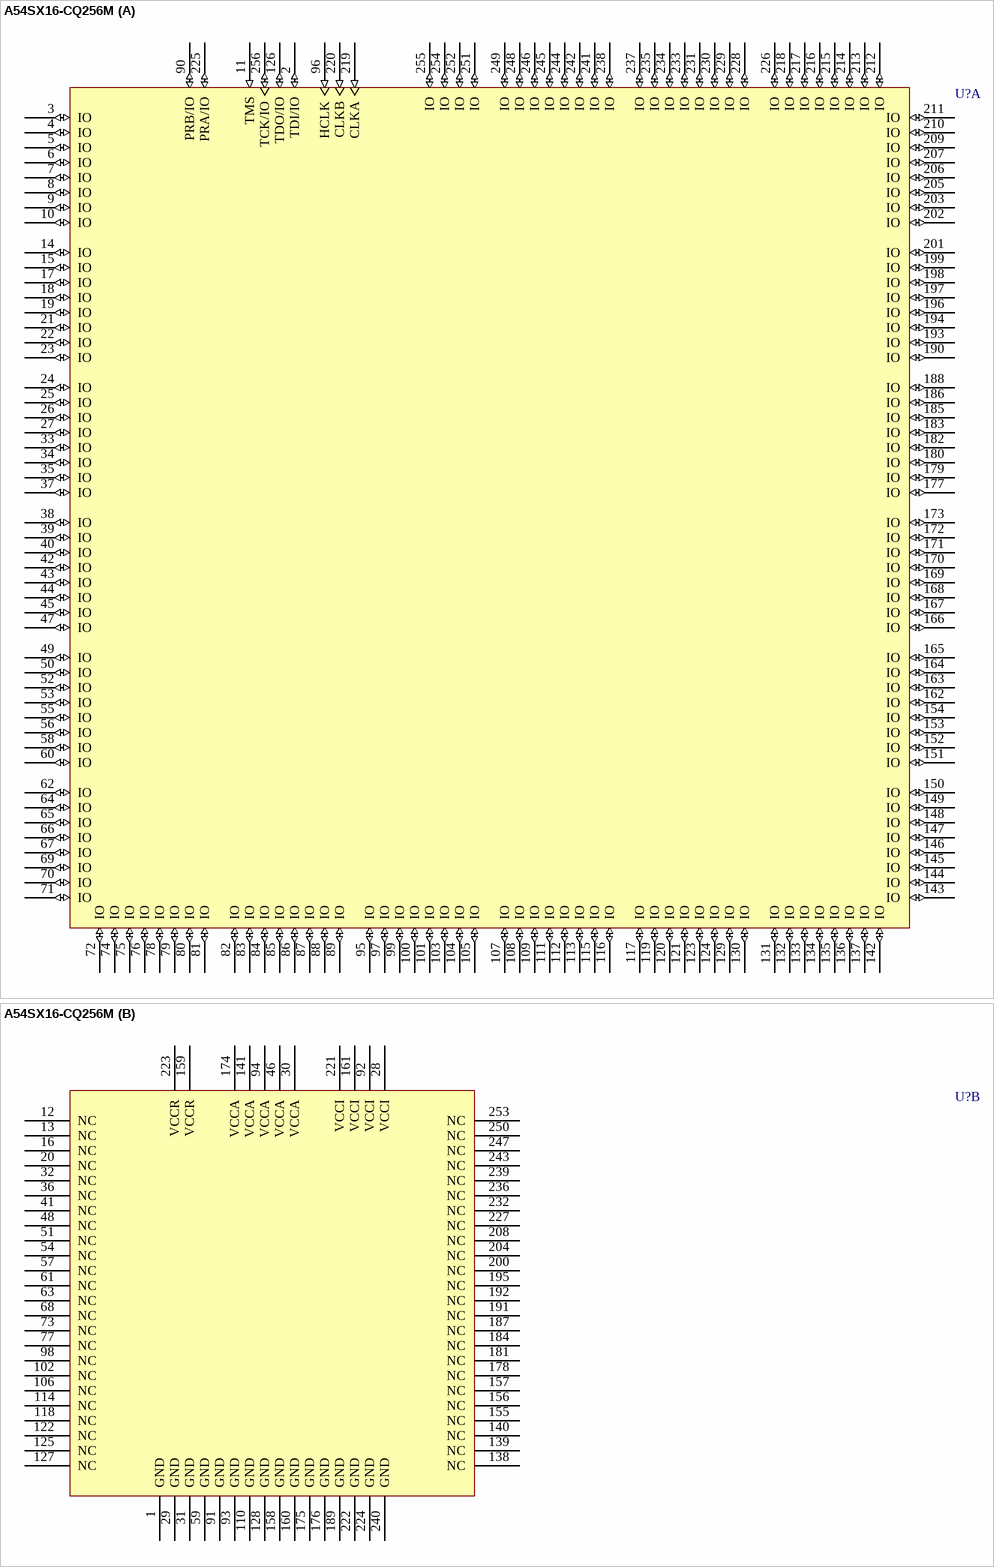
[diagram p49: symbol A54SX16-CQ256M]

## A54SX16-CQ256M
designator U?
A54SX16 RadTolerant FPGA, 180 User IOs, 256-Pin CQFP, Standard Speed Grade, Military Grade; Published: 17-Sep-2003; LatestRevisionDate: 13-Apr-2006; LatestRevisionNote: IPC-7351 Footprint Added.; DatasheetVersion: ver2.1, Mar-2005; PackageVersion: v9.2, Apr-2006; PackageReference: CQ256; Publisher: Altium Limited; PackageDescription: 256-Pin Ceramic Quad Flat Pack (CQFP); Code_JEDEC: MO-134-AB; ComponentLink1Description: Manufacturer Link; ComponentLink1URL: http://www.actel.com/products/aero/index.html; ComponentLink2Description: Datasheet; ComponentLink2URL: http://www.actel.com/documents/RTSXDS.pdf
footprint CQ256_N (CQFP, 256-Leads, Body 36x36mm; Pitch 0.5mm, Gullwing Leadform, IPC Medium Density)
footprint CQ256_L (CQFP, 256-Leads, Body 36x36mm; Pitch 0.5mm, Gullwing Leadform, IPC High Density)
footprint CQ256_M (CQFP, 256-Leads, Body 36x36mm; Pitch 0.5mm, Gullwing Leadform, IPC Low Density)
3D model A54SX16-CQ256 (256-Pin Ceramic Quad Flat Pack (CQFP))
part A pins: 2 TDI/IO (io), 3 IO (io), 4 IO (io), 5 IO (io), 6 IO (io), 7 IO (io), 8 IO (io), 9 IO (io), 10 IO (io), 11 TMS (in), 14 IO (io), 15 IO (io), 17 IO (io), 18 IO (io), 19 IO (io), 21 IO (io), 22 IO (io), 23 IO (io), 24 IO (io), 25 IO (io), 26 IO (io), 27 IO (io), 33 IO (io), 34 IO (io), 35 IO (io), 37 IO (io), 38 IO (io), 39 IO (io), 40 IO (io), 42 IO (io), 43 IO (io), 44 IO (io), 45 IO (io), 47 IO (io), 49 IO (io), 50 IO (io), 52 IO (io), 53 IO (io), 55 IO (io), 56 IO (io), 58 IO (io), 60 IO (io), 62 IO (io), 64 IO (io), 65 IO (io), 66 IO (io), 67 IO (io), 69 IO (io), 70 IO (io), 71 IO (io), 72 IO (io), 74 IO (io), 75 IO (io), 76 IO (io), 78 IO (io), 79 IO (io), 80 IO (io), 81 IO (io), 82 IO (io), 83 IO (io), 84 IO (io), 85 IO (io), 86 IO (io), 87 IO (io), 88 IO (io), 89 IO (io), 90 PRB/IO (io), 95 IO (io), 96 HCLK (in), 97 IO (io), 99 IO (io), 100 IO (io), 101 IO (io), 103 IO (io), 104 IO (io), 105 IO (io), 107 IO (io), 108 IO (io), 109 IO (io), 111 IO (io), 112 IO (io), 113 IO (io), 115 IO (io), 116 IO (io), 117 IO (io), 119 IO (io), 120 IO (io), 121 IO (io), 123 IO (io), 124 IO (io), 126 TDO/IO (io), 129 IO (io), 130 IO (io), 131 IO (io), 132 IO (io), 133 IO (io), 134 IO (io), 135 IO (io), 136 IO (io), 137 IO (io), 142 IO (io), 143 IO (io), 144 IO (io), 145 IO (io), 146 IO (io), 147 IO (io), 148 IO (io), 149 IO (io), 150 IO (io), 151 IO (io), 152 IO (io), 153 IO (io), 154 IO (io), 162 IO (io), 163 IO (io), 164 IO (io), 165 IO (io), 166 IO (io), 167 IO (io), 168 IO (io), 169 IO (io), 170 IO (io), 171 IO (io), 172 IO (io), 173 IO (io), 177 IO (io), 179 IO (io), 180 IO (io), 182 IO (io), 183 IO (io), 185 IO (io), 186 IO (io), 188 IO (io), 190 IO (io), 193 IO (io), 194 IO (io), 196 IO (io), 197 IO (io), 198 IO (io), 199 IO (io), 201 IO (io), 202 IO (io), 203 IO (io), 205 IO (io), 206 IO (io), 207 IO (io), 209 IO (io), 210 IO (io), 211 IO (io), 212 IO (io), 213 IO (io), 214 IO (io), 215 IO (io), 216 IO (io), 217 IO (io), 218 IO (io), 219 CLKA (in), 220 CLKB (in), 225 PRA/IO (io), 226 IO (io), 228 IO (io), 229 IO (io), 230 IO (io), 231 IO (io), 233 IO (io), 234 IO (io), 235 IO (io), 237 IO (io), 238 IO (io), 241 IO (io), 242 IO (io), 244 IO (io), 245 IO (io), 246 IO (io), 248 IO (io), 249 IO (io), 251 IO (io), 252 IO (io), 254 IO (io), 255 IO (io), 256 TCK/IO (io)
part B pins: 1 GND (power), 12 NC, 13 NC, 16 NC, 20 NC, 28 VCCI (power), 29 GND (power), 30 VCCA (power), 31 GND (power), 32 NC, 36 NC, 41 NC, 46 VCCA (power), 48 NC, 51 NC, 54 NC, 57 NC, 59 GND (power), 61 NC, 63 NC, 68 NC, 73 NC, 77 NC, 91 GND (power), 92 VCCI (power), 93 GND (power), 94 VCCA (power), 98 NC, 102 NC, 106 NC, 110 GND (power), 114 NC, 118 NC, 122 NC, 125 NC, 127 NC, 128 GND (power), 138 NC, 139 NC, 140 NC, 141 VCCA (power), 155 NC, 156 NC, 157 NC, 158 GND (power), 159 VCCR (power), 160 GND (power), 161 VCCI (power), 174 VCCA (power), 175 GND (power), 176 GND (power), 178 NC, 181 NC, 184 NC, 187 NC, 189 GND (power), 191 NC, 192 NC, 195 NC, 200 NC, 204 NC, 208 NC, 221 VCCI (power), 222 GND (power), 223 VCCR (power), 224 GND (power), 227 NC, 232 NC, 236 NC, 239 NC, 240 GND (power), 243 NC, 247 NC, 250 NC, 253 NC

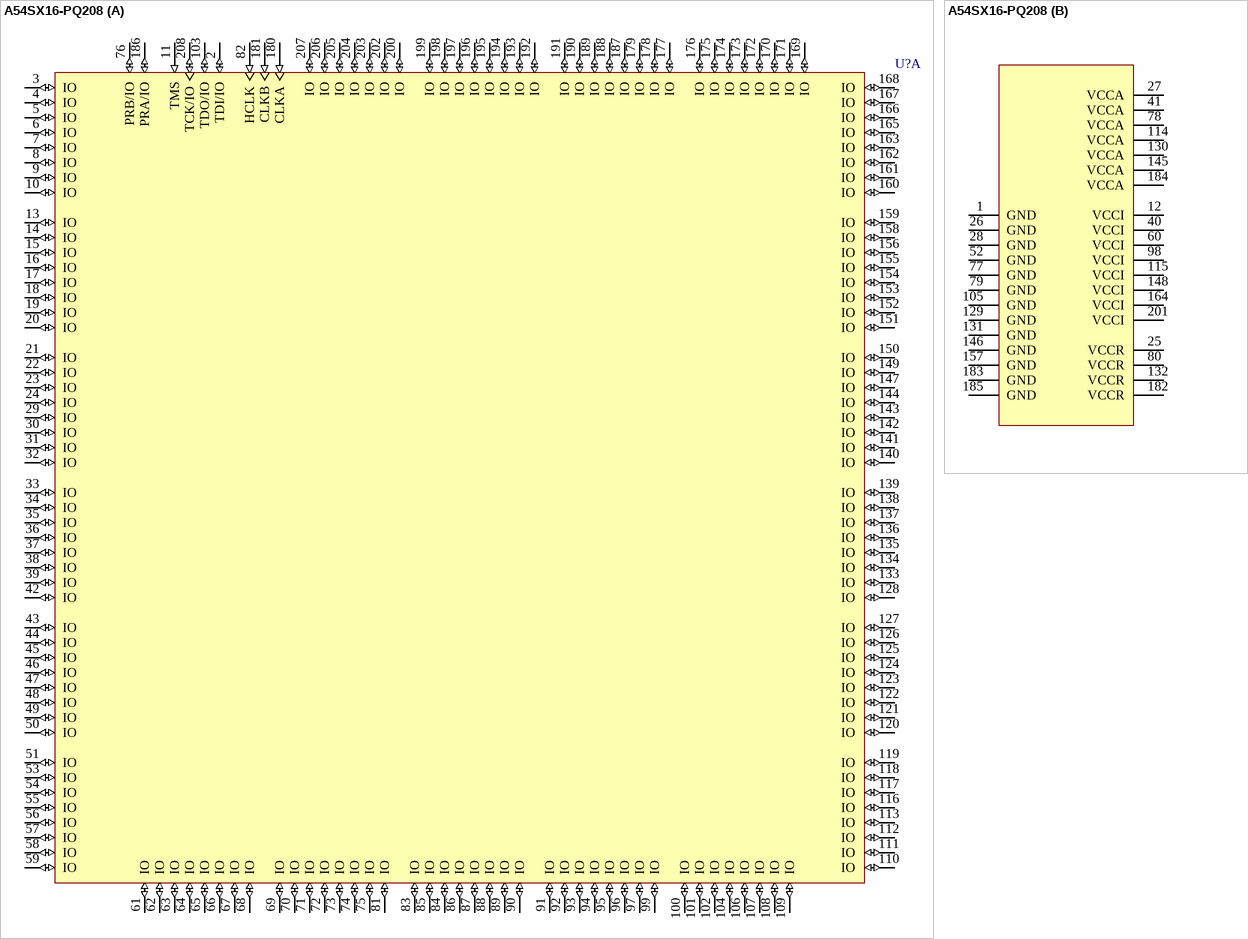
[diagram p50: symbol A54SX16-PQ208]

## A54SX16-PQ208
designator U?
54SX16 FPGA, 175 User IOs, 208-Pin PQFP, Standard Speed Grade, Commercial Grade; Note: Unused I/O Pins are automatically tristated by the Designer Series software.; Published: 21-May-2003; LatestRevisionDate: 13-Apr-2006; LatestRevisionNote: IPC-7351 Footprint Added.; DatasheetVersion: ver3.1, Jun-2003; PackageVersion: v9.2, Apr-2006; PackageReference: PQ208; Publisher: Altium Limited; PackageDescription: 208-Pin Plastic Quad Flat Pack (PQ208); Code_JEDEC: MS-029-FA-1; ComponentLink1Description: Manufacturer Link; ComponentLink1URL: http://www.actel.com/products/sxa/index.html; ComponentLink2Description: Datasheet; ComponentLink2URL: http://www.actel.com/documents/A54SXDS.pdf
footprint PQ208_N (Shrink QFP, 208-Leads, Body 28x28mm, Pitch 0.5mm, IPC Medium Density)
footprint PQ208_L (Shrink QFP, 208-Leads, Body 28x28mm, Pitch 0.5mm, IPC High Density)
footprint PQ208_M (Shrink QFP, 208-Leads, Body 28x28mm, Pitch 0.5mm, IPC Low Density)
3D model A54SX16-PQ208 (208-Pin Plastic Quad Flat Pack (PQ208))
part A pins: 2 TDI/IO (io), 3 IO (io), 4 IO (io), 5 IO (io), 6 IO (io), 7 IO (io), 8 IO (io), 9 IO (io), 10 IO (io), 11 TMS (in), 13 IO (io), 14 IO (io), 15 IO (io), 16 IO (io), 17 IO (io), 18 IO (io), 19 IO (io), 20 IO (io), 21 IO (io), 22 IO (io), 23 IO (io), 24 IO (io), 29 IO (io), 30 IO (io), 31 IO (io), 32 IO (io), 33 IO (io), 34 IO (io), 35 IO (io), 36 IO (io), 37 IO (io), 38 IO (io), 39 IO (io), 42 IO (io), 43 IO (io), 44 IO (io), 45 IO (io), 46 IO (io), 47 IO (io), 48 IO (io), 49 IO (io), 50 IO (io), 51 IO (io), 53 IO (io), 54 IO (io), 55 IO (io), 56 IO (io), 57 IO (io), 58 IO (io), 59 IO (io), 61 IO (io), 62 IO (io), 63 IO (io), 64 IO (io), 65 IO (io), 66 IO (io), 67 IO (io), 68 IO (io), 69 IO (io), 70 IO (io), 71 IO (io), 72 IO (io), 73 IO (io), 74 IO (io), 75 IO (io), 76 PRB/IO (io), 81 IO (io), 82 HCLK (in), 83 IO (io), 84 IO (io), 85 IO (io), 86 IO (io), 87 IO (io), 88 IO (io), 89 IO (io), 90 IO (io), 91 IO (io), 92 IO (io), 93 IO (io), 94 IO (io), 95 IO (io), 96 IO (io), 97 IO (io), 99 IO (io), 100 IO (io), 101 IO (io), 102 IO (io), 103 TDO/IO (io), 104 IO (io), 106 IO (io), 107 IO (io), 108 IO (io), 109 IO (io), 110 IO (io), 111 IO (io), 112 IO (io), 113 IO (io), 116 IO (io), 117 IO (io), 118 IO (io), 119 IO (io), 120 IO (io), 121 IO (io), 122 IO (io), 123 IO (io), 124 IO (io), 125 IO (io), 126 IO (io), 127 IO (io), 128 IO (io), 133 IO (io), 134 IO (io), 135 IO (io), 136 IO (io), 137 IO (io), 138 IO (io), 139 IO (io), 140 IO (io), 141 IO (io), 142 IO (io), 143 IO (io), 144 IO (io), 147 IO (io), 149 IO (io), 150 IO (io), 151 IO (io), 152 IO (io), 153 IO (io), 154 IO (io), 155 IO (io), 156 IO (io), 158 IO (io), 159 IO (io), 160 IO (io), 161 IO (io), 162 IO (io), 163 IO (io), 165 IO (io), 166 IO (io), 167 IO (io), 168 IO (io), 169 IO (io), 170 IO (io), 171 IO (io), 172 IO (io), 173 IO (io), 174 IO (io), 175 IO (io), 176 IO (io), 177 IO (io), 178 IO (io), 179 IO (io), 180 CLKA (in), 181 CLKB (in), 186 PRA/IO (io), 187 IO (io), 188 IO (io), 189 IO (io), 190 IO (io), 191 IO (io), 192 IO (io), 193 IO (io), 194 IO (io), 195 IO (io), 196 IO (io), 197 IO (io), 198 IO (io), 199 IO (io), 200 IO (io), 202 IO (io), 203 IO (io), 204 IO (io), 205 IO (io), 206 IO (io), 207 IO (io), 208 TCK/IO (io)
part B pins: 1 GND (power), 12 VCCI (power), 25 VCCR (power), 26 GND (power), 27 VCCA (power), 28 GND (power), 40 VCCI (power), 41 VCCA (power), 52 GND (power), 60 VCCI (power), 77 GND (power), 78 VCCA (power), 79 GND (power), 80 VCCR (power), 98 VCCI (power), 105 GND (power), 114 VCCA (power), 115 VCCI (power), 129 GND (power), 130 VCCA (power), 131 GND (power), 132 VCCR (power), 145 VCCA (power), 146 GND (power), 148 VCCI (power), 157 GND (power), 164 VCCI (power), 182 VCCR (power), 183 GND (power), 184 VCCA (power), 185 GND (power), 201 VCCI (power)

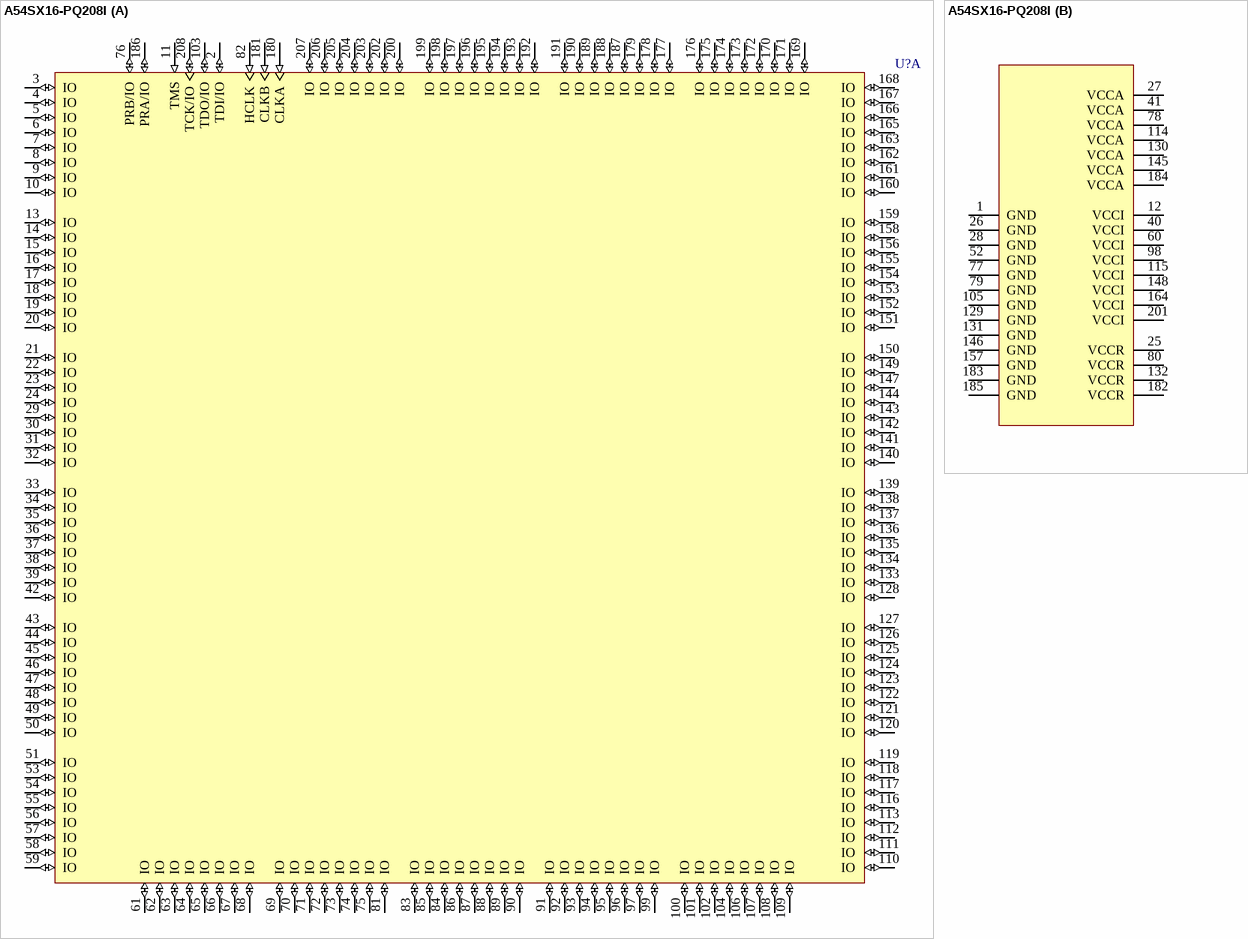
[diagram p51: symbol A54SX16-PQ208I]

## A54SX16-PQ208I
designator U?
54SX16 FPGA, 175 User IOs, 208-Pin PQFP, Standard Speed Grade, Industrial Grade; Note: Unused I/O Pins are automatically tristated by the Designer Series software.; Published: 21-May-2003; LatestRevisionDate: 13-Apr-2006; LatestRevisionNote: IPC-7351 Footprint Added.; DatasheetVersion: ver3.1, Jun-2003; PackageVersion: v9.2, Apr-2006; PackageReference: PQ208; Publisher: Altium Limited; PackageDescription: 208-Pin Plastic Quad Flat Pack (PQ208); Code_JEDEC: MS-029-FA-1; ComponentLink1Description: Manufacturer Link; ComponentLink1URL: http://www.actel.com/products/sxa/index.html; ComponentLink2Description: Datasheet; ComponentLink2URL: http://www.actel.com/documents/A54SXDS.pdf
footprint PQ208_N (Shrink QFP, 208-Leads, Body 28x28mm, Pitch 0.5mm, IPC Medium Density)
footprint PQ208_L (Shrink QFP, 208-Leads, Body 28x28mm, Pitch 0.5mm, IPC High Density)
footprint PQ208_M (Shrink QFP, 208-Leads, Body 28x28mm, Pitch 0.5mm, IPC Low Density)
3D model A54SX16-PQ208 (208-Pin Plastic Quad Flat Pack (PQ208))
part A pins: 2 TDI/IO (io), 3 IO (io), 4 IO (io), 5 IO (io), 6 IO (io), 7 IO (io), 8 IO (io), 9 IO (io), 10 IO (io), 11 TMS (in), 13 IO (io), 14 IO (io), 15 IO (io), 16 IO (io), 17 IO (io), 18 IO (io), 19 IO (io), 20 IO (io), 21 IO (io), 22 IO (io), 23 IO (io), 24 IO (io), 29 IO (io), 30 IO (io), 31 IO (io), 32 IO (io), 33 IO (io), 34 IO (io), 35 IO (io), 36 IO (io), 37 IO (io), 38 IO (io), 39 IO (io), 42 IO (io), 43 IO (io), 44 IO (io), 45 IO (io), 46 IO (io), 47 IO (io), 48 IO (io), 49 IO (io), 50 IO (io), 51 IO (io), 53 IO (io), 54 IO (io), 55 IO (io), 56 IO (io), 57 IO (io), 58 IO (io), 59 IO (io), 61 IO (io), 62 IO (io), 63 IO (io), 64 IO (io), 65 IO (io), 66 IO (io), 67 IO (io), 68 IO (io), 69 IO (io), 70 IO (io), 71 IO (io), 72 IO (io), 73 IO (io), 74 IO (io), 75 IO (io), 76 PRB/IO (io), 81 IO (io), 82 HCLK (in), 83 IO (io), 84 IO (io), 85 IO (io), 86 IO (io), 87 IO (io), 88 IO (io), 89 IO (io), 90 IO (io), 91 IO (io), 92 IO (io), 93 IO (io), 94 IO (io), 95 IO (io), 96 IO (io), 97 IO (io), 99 IO (io), 100 IO (io), 101 IO (io), 102 IO (io), 103 TDO/IO (io), 104 IO (io), 106 IO (io), 107 IO (io), 108 IO (io), 109 IO (io), 110 IO (io), 111 IO (io), 112 IO (io), 113 IO (io), 116 IO (io), 117 IO (io), 118 IO (io), 119 IO (io), 120 IO (io), 121 IO (io), 122 IO (io), 123 IO (io), 124 IO (io), 125 IO (io), 126 IO (io), 127 IO (io), 128 IO (io), 133 IO (io), 134 IO (io), 135 IO (io), 136 IO (io), 137 IO (io), 138 IO (io), 139 IO (io), 140 IO (io), 141 IO (io), 142 IO (io), 143 IO (io), 144 IO (io), 147 IO (io), 149 IO (io), 150 IO (io), 151 IO (io), 152 IO (io), 153 IO (io), 154 IO (io), 155 IO (io), 156 IO (io), 158 IO (io), 159 IO (io), 160 IO (io), 161 IO (io), 162 IO (io), 163 IO (io), 165 IO (io), 166 IO (io), 167 IO (io), 168 IO (io), 169 IO (io), 170 IO (io), 171 IO (io), 172 IO (io), 173 IO (io), 174 IO (io), 175 IO (io), 176 IO (io), 177 IO (io), 178 IO (io), 179 IO (io), 180 CLKA (in), 181 CLKB (in), 186 PRA/IO (io), 187 IO (io), 188 IO (io), 189 IO (io), 190 IO (io), 191 IO (io), 192 IO (io), 193 IO (io), 194 IO (io), 195 IO (io), 196 IO (io), 197 IO (io), 198 IO (io), 199 IO (io), 200 IO (io), 202 IO (io), 203 IO (io), 204 IO (io), 205 IO (io), 206 IO (io), 207 IO (io), 208 TCK/IO (io)
part B pins: 1 GND (power), 12 VCCI (power), 25 VCCR (power), 26 GND (power), 27 VCCA (power), 28 GND (power), 40 VCCI (power), 41 VCCA (power), 52 GND (power), 60 VCCI (power), 77 GND (power), 78 VCCA (power), 79 GND (power), 80 VCCR (power), 98 VCCI (power), 105 GND (power), 114 VCCA (power), 115 VCCI (power), 129 GND (power), 130 VCCA (power), 131 GND (power), 132 VCCR (power), 145 VCCA (power), 146 GND (power), 148 VCCI (power), 157 GND (power), 164 VCCI (power), 182 VCCR (power), 183 GND (power), 184 VCCA (power), 185 GND (power), 201 VCCI (power)

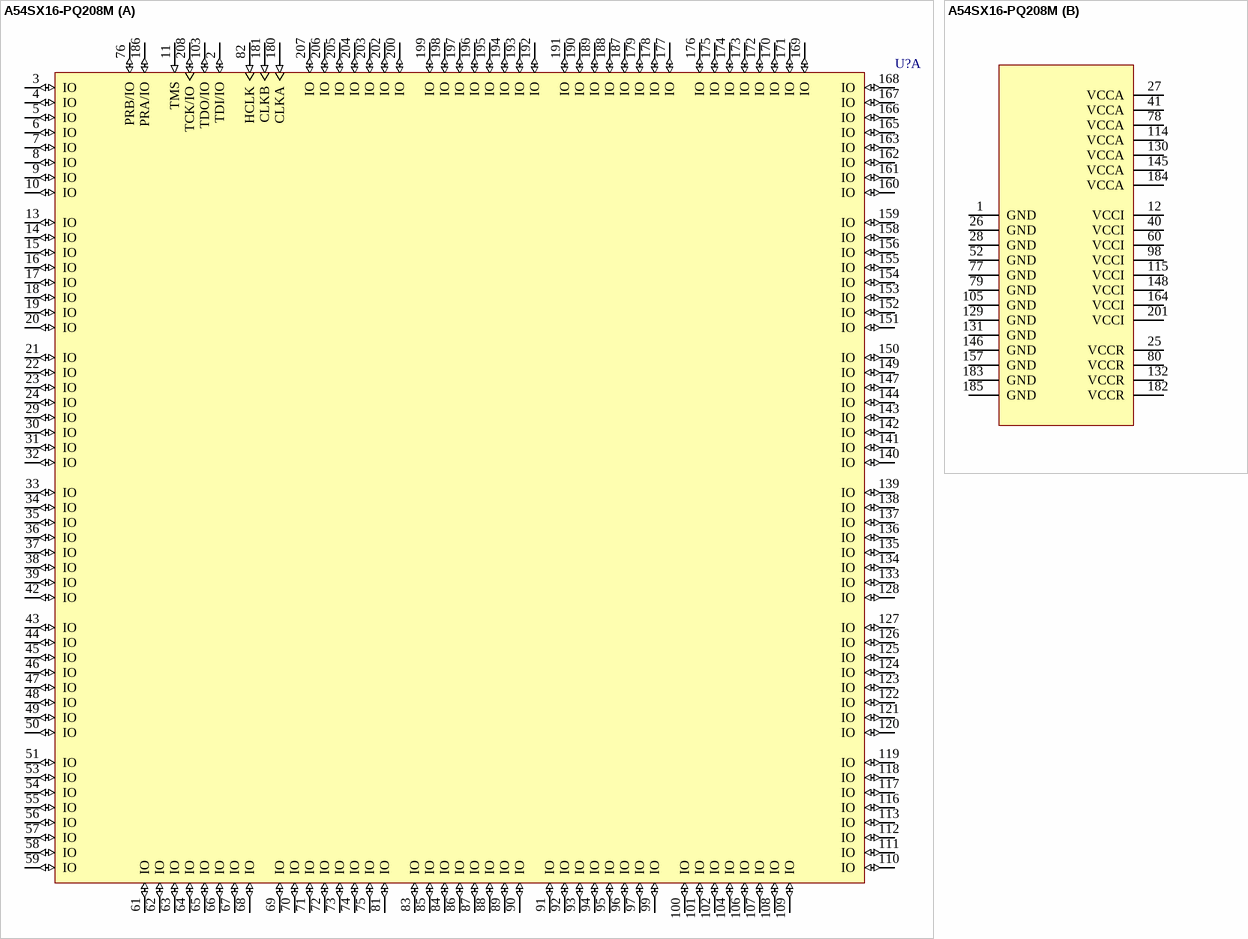
[diagram p52: symbol A54SX16-PQ208M]

## A54SX16-PQ208M
designator U?
54SX16 FPGA, 175 User IOs, 208-Pin PQFP, Standard Speed Grade, Commercial Grade; Note: Unused I/O Pins are automatically tristated by the Designer Series software.; Published: 21-May-2003; LatestRevisionDate: 13-Apr-2006; LatestRevisionNote: IPC-7351 Footprint Added.; DatasheetVersion: ver3.1, Jun-2003; PackageVersion: v9.2, Apr-2006; PackageReference: PQ208; Publisher: Altium Limited; PackageDescription: 208-Pin Plastic Quad Flat Pack (PQ208); Code_JEDEC: MS-029-FA-1; ComponentLink1Description: Manufacturer Link; ComponentLink1URL: http://www.actel.com/products/sxa/index.html; ComponentLink2Description: Datasheet; ComponentLink2URL: http://www.actel.com/documents/A54SXDS.pdf
footprint PQ208_N (Shrink QFP, 208-Leads, Body 28x28mm, Pitch 0.5mm, IPC Medium Density)
footprint PQ208_L (Shrink QFP, 208-Leads, Body 28x28mm, Pitch 0.5mm, IPC High Density)
footprint PQ208_M (Shrink QFP, 208-Leads, Body 28x28mm, Pitch 0.5mm, IPC Low Density)
3D model A54SX16-PQ208 (208-Pin Plastic Quad Flat Pack (PQ208))
part A pins: 2 TDI/IO (io), 3 IO (io), 4 IO (io), 5 IO (io), 6 IO (io), 7 IO (io), 8 IO (io), 9 IO (io), 10 IO (io), 11 TMS (in), 13 IO (io), 14 IO (io), 15 IO (io), 16 IO (io), 17 IO (io), 18 IO (io), 19 IO (io), 20 IO (io), 21 IO (io), 22 IO (io), 23 IO (io), 24 IO (io), 29 IO (io), 30 IO (io), 31 IO (io), 32 IO (io), 33 IO (io), 34 IO (io), 35 IO (io), 36 IO (io), 37 IO (io), 38 IO (io), 39 IO (io), 42 IO (io), 43 IO (io), 44 IO (io), 45 IO (io), 46 IO (io), 47 IO (io), 48 IO (io), 49 IO (io), 50 IO (io), 51 IO (io), 53 IO (io), 54 IO (io), 55 IO (io), 56 IO (io), 57 IO (io), 58 IO (io), 59 IO (io), 61 IO (io), 62 IO (io), 63 IO (io), 64 IO (io), 65 IO (io), 66 IO (io), 67 IO (io), 68 IO (io), 69 IO (io), 70 IO (io), 71 IO (io), 72 IO (io), 73 IO (io), 74 IO (io), 75 IO (io), 76 PRB/IO (io), 81 IO (io), 82 HCLK (in), 83 IO (io), 84 IO (io), 85 IO (io), 86 IO (io), 87 IO (io), 88 IO (io), 89 IO (io), 90 IO (io), 91 IO (io), 92 IO (io), 93 IO (io), 94 IO (io), 95 IO (io), 96 IO (io), 97 IO (io), 99 IO (io), 100 IO (io), 101 IO (io), 102 IO (io), 103 TDO/IO (io), 104 IO (io), 106 IO (io), 107 IO (io), 108 IO (io), 109 IO (io), 110 IO (io), 111 IO (io), 112 IO (io), 113 IO (io), 116 IO (io), 117 IO (io), 118 IO (io), 119 IO (io), 120 IO (io), 121 IO (io), 122 IO (io), 123 IO (io), 124 IO (io), 125 IO (io), 126 IO (io), 127 IO (io), 128 IO (io), 133 IO (io), 134 IO (io), 135 IO (io), 136 IO (io), 137 IO (io), 138 IO (io), 139 IO (io), 140 IO (io), 141 IO (io), 142 IO (io), 143 IO (io), 144 IO (io), 147 IO (io), 149 IO (io), 150 IO (io), 151 IO (io), 152 IO (io), 153 IO (io), 154 IO (io), 155 IO (io), 156 IO (io), 158 IO (io), 159 IO (io), 160 IO (io), 161 IO (io), 162 IO (io), 163 IO (io), 165 IO (io), 166 IO (io), 167 IO (io), 168 IO (io), 169 IO (io), 170 IO (io), 171 IO (io), 172 IO (io), 173 IO (io), 174 IO (io), 175 IO (io), 176 IO (io), 177 IO (io), 178 IO (io), 179 IO (io), 180 CLKA (in), 181 CLKB (in), 186 PRA/IO (io), 187 IO (io), 188 IO (io), 189 IO (io), 190 IO (io), 191 IO (io), 192 IO (io), 193 IO (io), 194 IO (io), 195 IO (io), 196 IO (io), 197 IO (io), 198 IO (io), 199 IO (io), 200 IO (io), 202 IO (io), 203 IO (io), 204 IO (io), 205 IO (io), 206 IO (io), 207 IO (io), 208 TCK/IO (io)
part B pins: 1 GND (power), 12 VCCI (power), 25 VCCR (power), 26 GND (power), 27 VCCA (power), 28 GND (power), 40 VCCI (power), 41 VCCA (power), 52 GND (power), 60 VCCI (power), 77 GND (power), 78 VCCA (power), 79 GND (power), 80 VCCR (power), 98 VCCI (power), 105 GND (power), 114 VCCA (power), 115 VCCI (power), 129 GND (power), 130 VCCA (power), 131 GND (power), 132 VCCR (power), 145 VCCA (power), 146 GND (power), 148 VCCI (power), 157 GND (power), 164 VCCI (power), 182 VCCR (power), 183 GND (power), 184 VCCA (power), 185 GND (power), 201 VCCI (power)

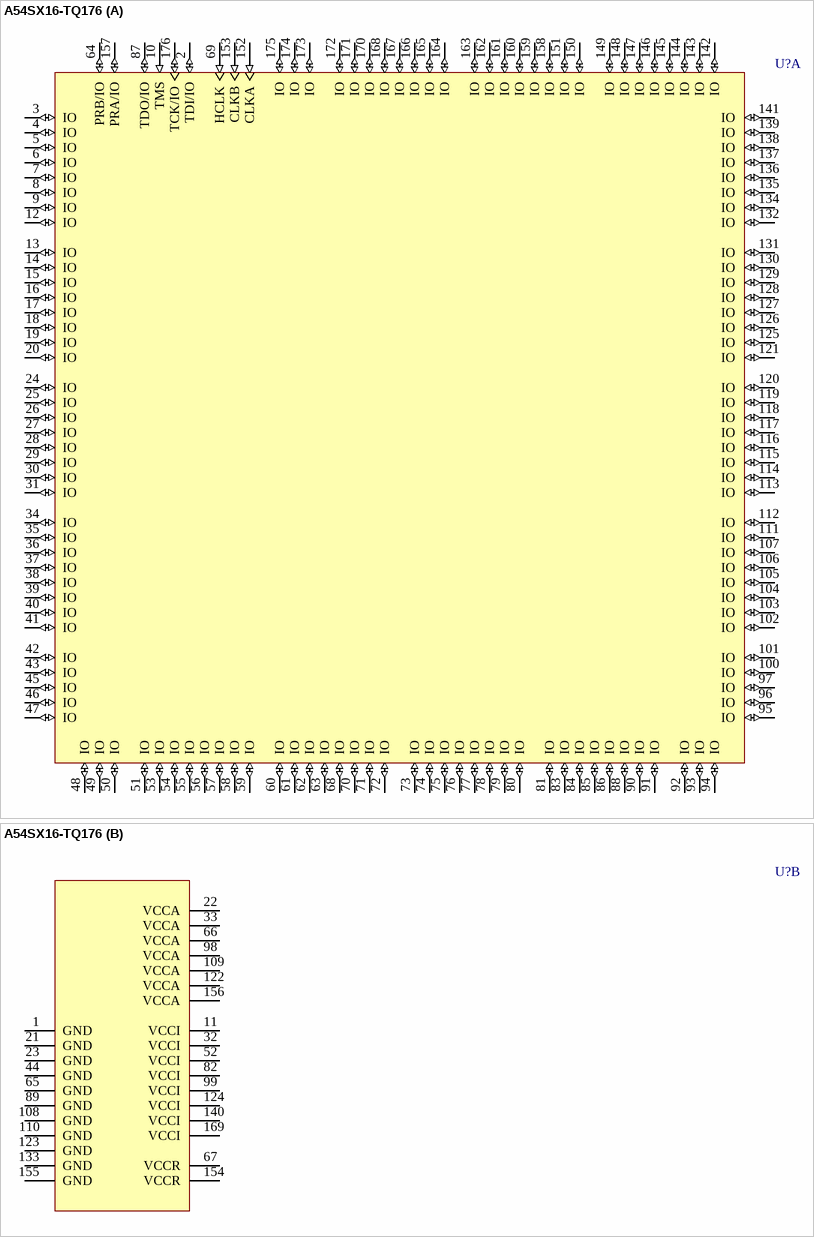
[diagram p53: symbol A54SX16-TQ176]

## A54SX16-TQ176
designator U?
54SX16 FPGA, 147 User IOs, 176-Pin TQFP, Speed Grade 1, Commercial Grade; Note: Unused I/O Pins are automatically tristated by the Designer Series software.; Published: 21-May-2003; LatestRevisionDate: 13-Apr-2006; LatestRevisionNote: IPC-7351 Footprint Added.; DatasheetVersion: ver3.1, Jun-2003; PackageVersion: v9.2, Apr-2006; PackageReference: TQ176; Publisher: Altium Limited; PackageDescription: 176-Pin Plastic Quad Flat Pack (TQ176); Code_JEDEC: MS-026-BCA; ComponentLink1Description: Manufacturer Link; ComponentLink1URL: http://www.actel.com/products/sxa/index.html; ComponentLink2Description: Datasheet; ComponentLink2URL: http://www.actel.com/documents/A54SXDS.pdf
footprint TQ176_N (Thin QFP, 176-Leads, Body 24x24mm, Pitch 0.5mm, IPC Medium Density)
footprint TQ176_L (Thin QFP, 176-Leads, Body 24x24mm, Pitch 0.5mm, IPC High Density)
footprint TQ176_M (Thin QFP, 176-Leads, Body 24x24mm, Pitch 0.5mm, IPC Low Density)
3D model A54SX16-TQ176 (176-Pin Plastic Quad Flat Pack (TQ176))
part A pins: 2 TDI/IO (io), 3 IO (io), 4 IO (io), 5 IO (io), 6 IO (io), 7 IO (io), 8 IO (io), 9 IO (io), 10 TMS (in), 12 IO (io), 13 IO (io), 14 IO (io), 15 IO (io), 16 IO (io), 17 IO (io), 18 IO (io), 19 IO (io), 20 IO (io), 24 IO (io), 25 IO (io), 26 IO (io), 27 IO (io), 28 IO (io), 29 IO (io), 30 IO (io), 31 IO (io), 34 IO (io), 35 IO (io), 36 IO (io), 37 IO (io), 38 IO (io), 39 IO (io), 40 IO (io), 41 IO (io), 42 IO (io), 43 IO (io), 45 IO (io), 46 IO (io), 47 IO (io), 48 IO (io), 49 IO (io), 50 IO (io), 51 IO (io), 53 IO (io), 54 IO (io), 55 IO (io), 56 IO (io), 57 IO (io), 58 IO (io), 59 IO (io), 60 IO (io), 61 IO (io), 62 IO (io), 63 IO (io), 64 PRB/IO (io), 68 IO (io), 69 HCLK (in), 70 IO (io), 71 IO (io), 72 IO (io), 73 IO (io), 74 IO (io), 75 IO (io), 76 IO (io), 77 IO (io), 78 IO (io), 79 IO (io), 80 IO (io), 81 IO (io), 83 IO (io), 84 IO (io), 85 IO (io), 86 IO (io), 87 TDO/IO (io), 88 IO (io), 90 IO (io), 91 IO (io), 92 IO (io), 93 IO (io), 94 IO (io), 95 IO (io), 96 IO (io), 97 IO (io), 100 IO (io), 101 IO (io), 102 IO (io), 103 IO (io), 104 IO (io), 105 IO (io), 106 IO (io), 107 IO (io), 111 IO (io), 112 IO (io), 113 IO (io), 114 IO (io), 115 IO (io), 116 IO (io), 117 IO (io), 118 IO (io), 119 IO (io), 120 IO (io), 121 IO (io), 125 IO (io), 126 IO (io), 127 IO (io), 128 IO (io), 129 IO (io), 130 IO (io), 131 IO (io), 132 IO (io), 134 IO (io), 135 IO (io), 136 IO (io), 137 IO (io), 138 IO (io), 139 IO (io), 141 IO (io), 142 IO (io), 143 IO (io), 144 IO (io), 145 IO (io), 146 IO (io), 147 IO (io), 148 IO (io), 149 IO (io), 150 IO (io), 151 IO (io), 152 CLKA (in), 153 CLKB (in), 157 PRA/IO (io), 158 IO (io), 159 IO (io), 160 IO (io), 161 IO (io), 162 IO (io), 163 IO (io), 164 IO (io), 165 IO (io), 166 IO (io), 167 IO (io), 168 IO (io), 170 IO (io), 171 IO (io), 172 IO (io), 173 IO (io), 174 IO (io), 175 IO (io), 176 TCK/IO (io)
part B pins: 1 GND (power), 11 VCCI (power), 21 GND (power), 22 VCCA (power), 23 GND (power), 32 VCCI (power), 33 VCCA (power), 44 GND (power), 52 VCCI (power), 65 GND (power), 66 VCCA (power), 67 VCCR (power), 82 VCCI (power), 89 GND (power), 98 VCCA (power), 99 VCCI (power), 108 GND (power), 109 VCCA (power), 110 GND (power), 122 VCCA (power), 123 GND (power), 124 VCCI (power), 133 GND (power), 140 VCCI (power), 154 VCCR (power), 155 GND (power), 156 VCCA (power), 169 VCCI (power)

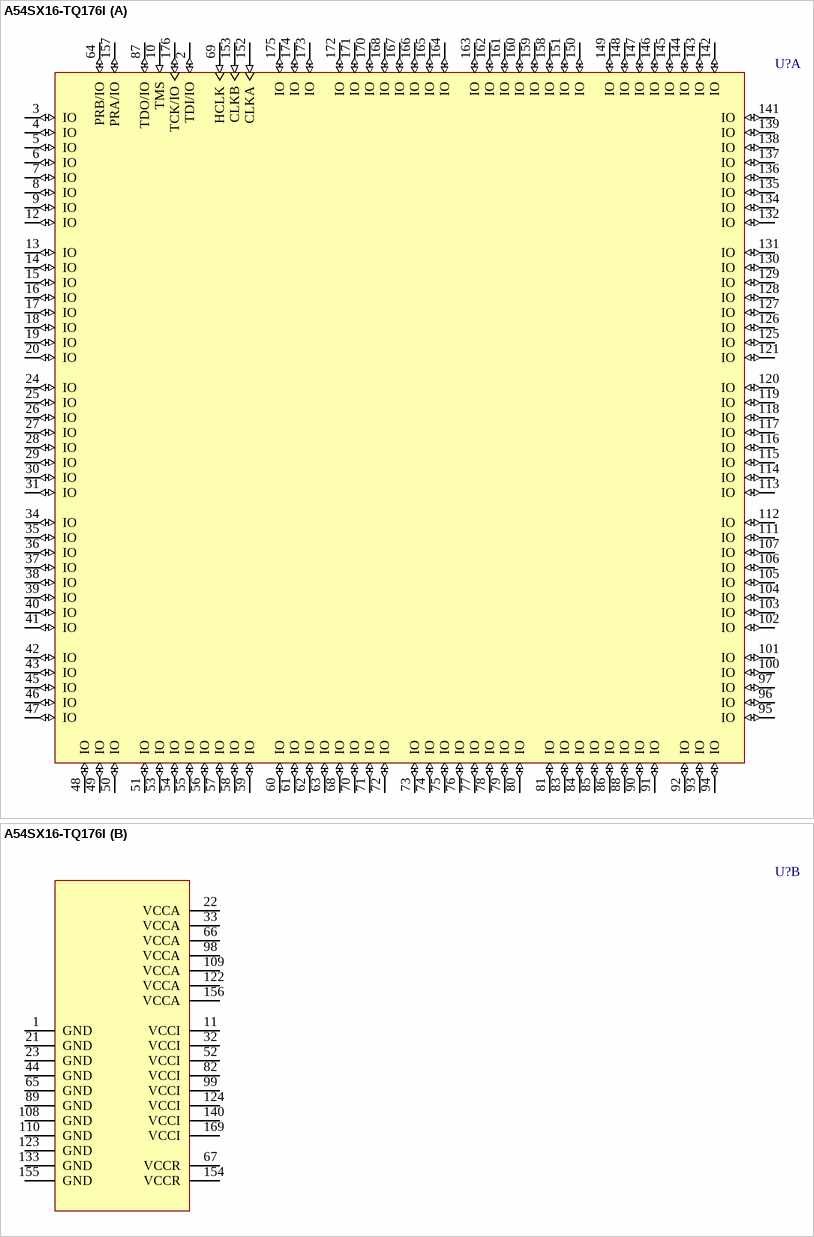
[diagram p54: symbol A54SX16-TQ176I]